# Altium schematic symbol library JDR2812（公开）.SchLib: 120 symbols (part 1 of 2)
Pins are listed as number, name and electrical type; pins without a type are passive.

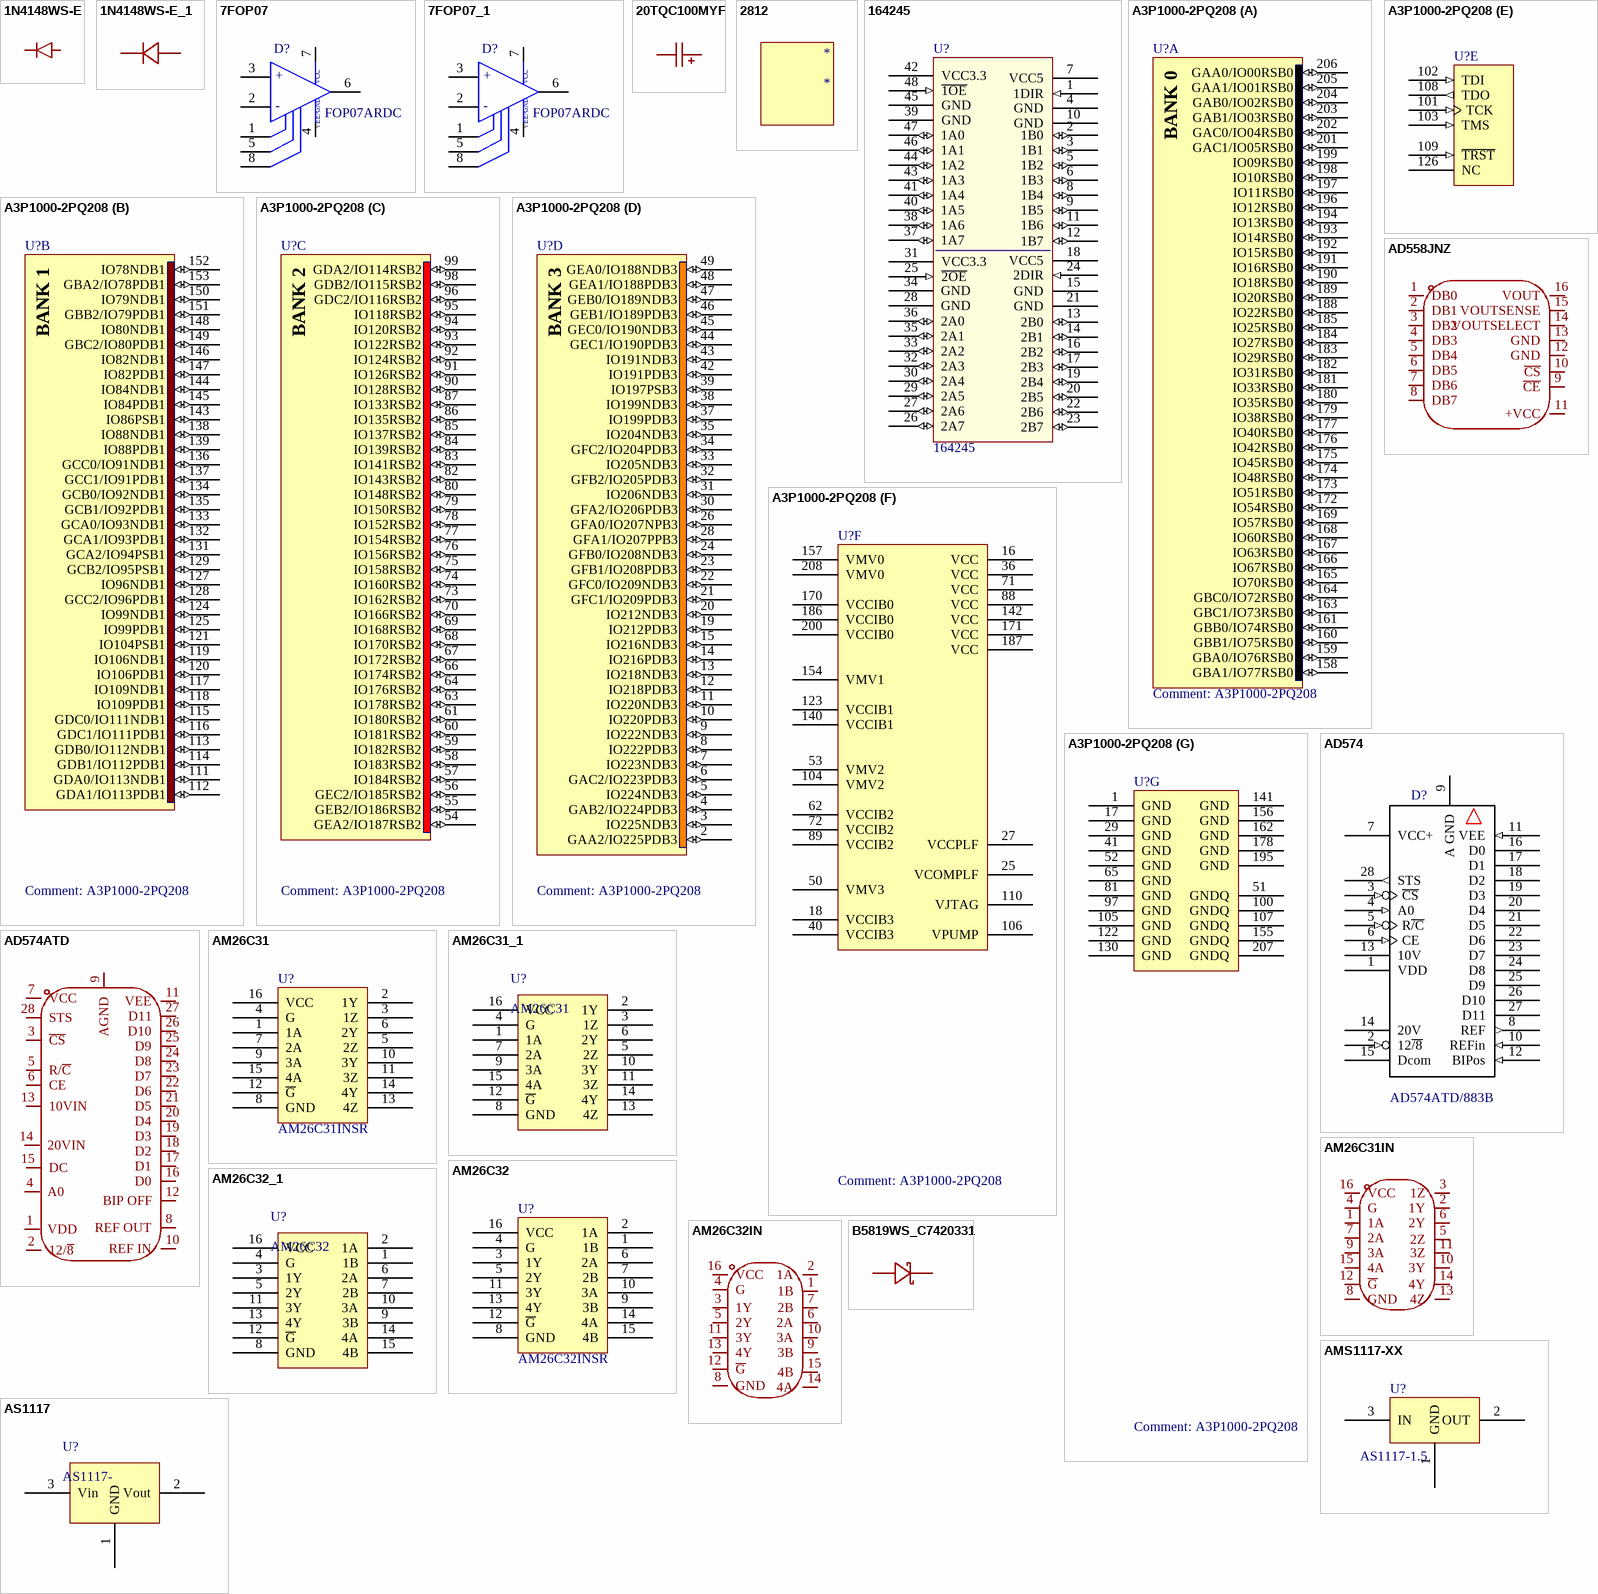
[diagram p0: symbols 1N4148WS-E to B5819WS_C7420331]

## 1N4148WS-E
designator D??  (value not drawn)
Manufacturer: MDD(辰达半导体); Add into BOM: yes; Symbol: 1n4148ws-e; Device: 1N4148WS-E; LCSC Part Name: 开关二极管; Supplier Part: C41371421; Manufacturer Part: 1N4148WS-E; Supplier Footprint: SOD-323; JLCPCB Part Class: Extended Part; Datasheet: https://atta.szlcsc.com/upload/public/pdf/source/20240830/BA1E56105C5798AA4D5522D8577BF8A0.pdf; Supplier: LCSC; Convert to PCB: yes; Diode Configuration: -; Forward Voltage (Vf@If): -; Reverse Voltage (Vr): -; Comment_1: 1N4148WS-E
footprint SOD-323_L1.8-W1.3-LS2.5-RD
pins: 1 K, 2 A

## 1N4148WS-E_1
designator D??, comment 1N4148WS-E  (value not drawn)
Manufacturer: MDD(辰达半导体); Add into BOM: yes; Symbol: 1n4148ws-e; Device: 1N4148WS-E; LCSC Part Name: 开关二极管; Supplier Part: C41371421; Manufacturer Part: 1N4148WS-E; Supplier Footprint: SOD-323; JLCPCB Part Class: Extended Part; Datasheet: https://atta.szlcsc.com/upload/public/pdf/source/20240830/BA1E56105C5798AA4D5522D8577BF8A0.pdf; Supplier: LCSC; Convert to PCB: yes; Diode Configuration: -; Forward Voltage (Vf@If): -; Reverse Voltage (Vr): -; Comment_1: 1N4148WS-E
footprint SOD-323_L1.8-W1.3-LS2.5-RD
pins: 1 K, 2 A

## 7FOP07
designator D?, comment FOP07ARDC
1_器件名称: 运放; 4_封装: DIP8; 5_生产厂家: 771厂; 2_型号规格: OP07ARDC; 3_质量等级: *
footprint CSOP08J
footprint DIP8
pins: 1 OA1, 2 IN-, 3 IN+, 4 V-, 5 NC, 6 OUT, 7 V+, 8 OA2
text: +; VCC; -; VEE/GND

## 7FOP07_1
designator D?, comment FOP07ARDC
1_器件名称: 运放; 4_封装: DIP8; 5_生产厂家: 771厂; 2_型号规格: OP07ARDC; 3_质量等级: *
footprint CSOP08J
footprint DIP8
pins: 1 OA1, 2 IN-, 3 IN+, 4 V-, 5 NC, 6 OUT, 7 V+, 8 OA2
text: +; VCC; -; VEE/GND

## 20TQC100MYF
designator C??, comment 100uF  (value not drawn)
Manufacturer: PANASONIC(松下); Symbol: 20TQC100MYF; Add into BOM: yes; Tolerance: ±20%; Rated Voltage: 20V; Equivalent Series Resistance(ESR): 55mΩ@100kHz; Device: 20TQC100MYF; LCSC Part Name: 100uF ±20% 20V; Supplier Part: C139578; Manufacturer Part: 20TQC100MYF; Supplier Footprint: -; JLCPCB Part Class: Extended Part; Datasheet: https://atta.szlcsc.com/upload/public/pdf/source/20180327/C178360_45C3E0E4231676737BD215E9C4CFE59C.pdf; Supplier: LCSC; Convert to PCB: yes; Value: 100uF; Operating Temperature: -55℃~+105℃; Comment_1: 100uF
footprint CAP-SMD_L7.3-W4.3-R-RD
pins: 1, 2

## 2812
designator *

## 164245
designator U?
1_器件名称: 总线收发器; 3_质量等级: J; 2_型号规格: JSR164245SA/JS164245/K/SN74ALVC164245; 备注: CFP48/CSOP48/SSOP48; 5_生产厂家: 58所
footprint CSOP外形
footprint CFP48
pins: 1 1DIR (in), 2 1B0 (io), 3 1B1 (io), 4 GND (power), 5 1B2 (io), 6 1B3 (io), 7 VCC5 (power), 8 1B4 (io), 9 1B5 (io), 10 GND (power), 11 1B6 (io), 12 1B7 (io), 13 2B0 (io), 14 2B1 (io), 15 GND (power), 16 2B2 (io), 17 2B3 (io), 18 VCC5 (power), 19 2B4 (io), 20 2B5 (io), 21 GND (power), 22 2B6 (io), 23 2B7 (io), 24 2DIR (in), 25 ~{2OE} (in), 26 2A7 (io), 27 2A6 (io), 28 GND (power), 29 2A5 (io), 30 2A4 (io), 31 VCC3.3 (power), 32 2A3 (io), 33 2A2 (io), 34 GND (power), 35 2A1 (io), 36 2A0 (io), 37 1A7 (io), 38 1A6 (io), 39 GND (power), 40 1A5 (io), 41 1A4 (io), 42 VCC3.3 (power), 43 1A3 (io), 44 1A2 (io), 45 GND (power), 46 1A1 (io), 47 1A0 (io), 48 ~{1OE} (in)

## A3P1000-2PQ208
designator U?
ProASIC3 Flash Family FPGA, 154 User IOs, 1M System Gates, 144 Kbits RAM, 1 Kbit Flash ROM, 1 PLL, 208-Pin PQFP, Commercial Grade; Published: 4-Mar-2005; LatestRevisionDate: 13-Apr-2006; LatestRevisionNote: IPC-7351 Footprint Added.; DatasheetVersion: v1.1, Feb-2009; PackageVersion: v11.0, Feb-2009; PackageReference: PQ208; Publisher: Altium Limited; PackageDescription: 208-Pin Plastic Quad Flat Pack (PQ208); Code_JEDEC: MS-029-FA-1; ComponentLink1Description: Manufacturer Link; ComponentLink1URL: http://www.actel.com/products/pa3/; ComponentLink2Description: Datasheet; ComponentLink2URL: http://www.actel.com/documents/PA3_DS.pdf; ComponentLink3Description: Packaging Specification; ComponentLink3URL: http://www.actel.com/documents/PckgMechDrwngs.pdf
footprint CQFP208__A3P1000
footprint PQ208_L (Shrink QFP, 208-Leads, Body 28x28mm, Pitch 0.5mm, IPC High Density)
footprint PQ208_M (Shrink QFP, 208-Leads, Body 28x28mm, Pitch 0.5mm, IPC Low Density)
3D model A3P1000-PQ208 (208-Pin Plastic Quad Flat Pack (PQ208))
signal-integrity model A3P1000_PQ208 (ProASIC3)
part A pins: 158 GBA1/IO77RSB0 (io), 159 GBA0/IO76RSB0 (io), 160 GBB1/IO75RSB0 (io), 161 GBB0/IO74RSB0 (io), 163 GBC1/IO73RSB0 (io), 164 GBC0/IO72RSB0 (io), 165 IO70RSB0 (io), 166 IO67RSB0 (io), 167 IO63RSB0 (io), 168 IO60RSB0 (io), 169 IO57RSB0 (io), 172 IO54RSB0 (io), 173 IO51RSB0 (io), 174 IO48RSB0 (io), 175 IO45RSB0 (io), 176 IO42RSB0 (io), 177 IO40RSB0 (io), 179 IO38RSB0 (io), 180 IO35RSB0 (io), 181 IO33RSB0 (io), 182 IO31RSB0 (io), 183 IO29RSB0 (io), 184 IO27RSB0 (io), 185 IO25RSB0 (io), 188 IO22RSB0 (io), 189 IO20RSB0 (io), 190 IO18RSB0 (io), 191 IO16RSB0 (io), 192 IO15RSB0 (io), 193 IO14RSB0 (io), 194 IO13RSB0 (io), 196 IO12RSB0 (io), 197 IO11RSB0 (io), 198 IO10RSB0 (io), 199 IO09RSB0 (io), 201 GAC1/IO05RSB0 (io), 202 GAC0/IO04RSB0 (io), 203 GAB1/IO03RSB0 (io), 204 GAB0/IO02RSB0 (io), 205 GAA1/IO01RSB0 (io), 206 GAA0/IO00RSB0 (io)
part B pins: 111 GDA0/IO113NDB1 (io), 112 GDA1/IO113PDB1 (io), 113 GDB0/IO112NDB1 (io), 114 GDB1/IO112PDB1 (io), 115 GDC0/IO111NDB1 (io), 116 GDC1/IO111PDB1 (io), 117 IO109NDB1 (io), 118 IO109PDB1 (io), 119 IO106NDB1 (io), 120 IO106PDB1 (io), 121 IO104PSB1 (io), 124 IO99NDB1 (io), 125 IO99PDB1 (io), 127 IO96NDB1 (io), 128 GCC2/IO96PDB1 (io), 129 GCB2/IO95PSB1 (io), 131 GCA2/IO94PSB1 (io), 132 GCA1/IO93PDB1 (io), 133 GCA0/IO93NDB1 (io), 134 GCB0/IO92NDB1 (io), 135 GCB1/IO92PDB1 (io), 136 GCC0/IO91NDB1 (io), 137 GCC1/IO91PDB1 (io), 138 IO88NDB1 (io), 139 IO88PDB1 (io), 143 IO86PSB1 (io), 144 IO84NDB1 (io), 145 IO84PDB1 (io), 146 IO82NDB1 (io), 147 IO82PDB1 (io), 148 IO80NDB1 (io), 149 GBC2/IO80PDB1 (io), 150 IO79NDB1 (io), 151 GBB2/IO79PDB1 (io), 152 IO78NDB1 (io), 153 GBA2/IO78PDB1 (io)
part C pins: 54 GEA2/IO187RSB2 (io), 55 GEB2/IO186RSB2 (io), 56 GEC2/IO185RSB2 (io), 57 IO184RSB2 (io), 58 IO183RSB2 (io), 59 IO182RSB2 (io), 60 IO181RSB2 (io), 61 IO180RSB2 (io), 63 IO178RSB2 (io), 64 IO176RSB2 (io), 66 IO174RSB2 (io), 67 IO172RSB2 (io), 68 IO170RSB2 (io), 69 IO168RSB2 (io), 70 IO166RSB2 (io), 73 IO162RSB2 (io), 74 IO160RSB2 (io), 75 IO158RSB2 (io), 76 IO156RSB2 (io), 77 IO154RSB2 (io), 78 IO152RSB2 (io), 79 IO150RSB2 (io), 80 IO148RSB2 (io), 82 IO143RSB2 (io), 83 IO141RSB2 (io), 84 IO139RSB2 (io), 85 IO137RSB2 (io), 86 IO135RSB2 (io), 87 IO133RSB2 (io), 90 IO128RSB2 (io), 91 IO126RSB2 (io), 92 IO124RSB2 (io), 93 IO122RSB2 (io), 94 IO120RSB2 (io), 95 IO118RSB2 (io), 96 GDC2/IO116RSB2 (io), 98 GDB2/IO115RSB2 (io), 99 GDA2/IO114RSB2 (io)
part D pins: 2 GAA2/IO225PDB3 (io), 3 IO225NDB3 (io), 4 GAB2/IO224PDB3 (io), 5 IO224NDB3 (io), 6 GAC2/IO223PDB3 (io), 7 IO223NDB3 (io), 8 IO222PDB3 (io), 9 IO222NDB3 (io), 10 IO220PDB3 (io), 11 IO220NDB3 (io), 12 IO218PDB3 (io), 13 IO218NDB3 (io), 14 IO216PDB3 (io), 15 IO216NDB3 (io), 19 IO212PDB3 (io), 20 IO212NDB3 (io), 21 GFC1/IO209PDB3 (io), 22 GFC0/IO209NDB3 (io), 23 GFB1/IO208PDB3 (io), 24 GFB0/IO208NDB3 (io), 26 GFA0/IO207NPB3 (io), 28 GFA1/IO207PPB3 (io), 30 GFA2/IO206PDB3 (io), 31 IO206NDB3 (io), 32 GFB2/IO205PDB3 (io), 33 IO205NDB3 (io), 34 GFC2/IO204PDB3 (io), 35 IO204NDB3 (io), 37 IO199PDB3 (io), 38 IO199NDB3 (io), 39 IO197PSB3 (io), 42 IO191PDB3 (io), 43 IO191NDB3 (io), 44 GEC1/IO190PDB3 (io), 45 GEC0/IO190NDB3 (io), 46 GEB1/IO189PDB3 (io), 47 GEB0/IO189NDB3 (io), 48 GEA1/IO188PDB3 (io), 49 GEA0/IO188NDB3 (io)
part E pins: 101 TCK (in), 102 TDI (in), 103 TMS (in), 108 TDO (out), 109 ~{TRST} (in), 126 NC
part F pins: 16 VCC (power), 18 VCCIB3 (power), 25 VCOMPLF (power), 27 VCCPLF (power), 36 VCC (power), 40 VCCIB3 (power), 50 VMV3 (power), 53 VMV2 (power), 62 VCCIB2 (power), 71 VCC (power), 72 VCCIB2 (power), 88 VCC (power), 89 VCCIB2 (power), 104 VMV2 (power), 106 VPUMP (power), 110 VJTAG (power), 123 VCCIB1 (power), 140 VCCIB1 (power), 142 VCC (power), 154 VMV1 (power), 157 VMV0 (power), 170 VCCIB0 (power), 171 VCC (power), 186 VCCIB0 (power), 187 VCC (power), 200 VCCIB0 (power), 208 VMV0 (power)
part G pins: 1 GND (power), 17 GND (power), 29 GND (power), 41 GND (power), 51 GNDQ (power), 52 GND (power), 65 GND (power), 81 GND (power), 97 GND (power), 100 GNDQ (power), 105 GND (power), 107 GNDQ (power), 122 GND (power), 130 GND (power), 141 GND (power), 155 GNDQ (power), 156 GND (power), 162 GND (power), 178 GND (power), 195 GND (power), 207 GNDQ (power)
part A text: BANK 0
part B text: BANK 1
part C text: BANK 2
part D text: BANK 3

## AD558JNZ
designator U??  (value not drawn)
Manufacturer: ADI(亚德诺); Add into BOM: yes; Interface: 并行; Output Type: 电压-缓冲; Supply Voltage: 4.5V~16.5V; Resolution: 8位; Integral nonlinearity: ±0.5LSB; Settling Time: 3us; Symbol: ad558jnz; Device: AD558JNZ; LCSC Part Name: 电压输出8位数模转换器，集成输出放大器、完全微处理器接口和精密基准电压源; Supplier Part: C55750; Manufacturer Part: AD558JNZ; Supplier Footprint: PDIP-16; JLCPCB Part Class: Extended Part; Datasheet: https://atta.szlcsc.com/upload/public/pdf/source/20150821/1457707347677.pdf; Supplier: LCSC; Convert to PCB: yes; Operating Temperature: 0℃~+70℃; Comment_1: AD558JNZ
footprint PDIP-16_L22.1-W6.3-P2.54-LS7.6-BL
pins: 1 DB0, 2 DB1, 3 DB2, 4 DB3, 5 DB4, 6 DB5, 7 DB6, 8 DB7, 9 ~{CE}, 10 ~{CS}, 11 +VCC, 12 GND, 13 GND, 14 VOUTSELECT, 15 VOUTSENSE, 16 VOUT

## AD574
designator D?, comment AD574ATD/883B
1_器件名称: A/D转换器; 5_生产厂家: AD; 4_封装: DIP28; 2_型号规格: AD574ATD/883B; 3_质量等级: *
footprint DIP28
pins: 1 VDD, 2 12~{/8} (in), 3 ~{CS} (in), 4 A0 (in), 5 R~{/C} (in), 6 CE (in), 7 VCC+, 8 REF (out), 9 A GND, 10 REFin (in), 11 VEE (in), 12 BIPos (in), 13 10V, 14 20V, 15 Dcom, 16 D0 (hiz), 17 D1 (hiz), 18 D2 (hiz), 19 D3 (hiz), 20 D4 (hiz), 21 D5 (hiz), 22 D6 (hiz), 23 D7 (hiz), 24 D8 (hiz), 25 D9 (hiz), 26 D10 (hiz), 27 D11 (hiz), 28 STS (out)
2 alternate drawings of the same symbol

## AD574ATD
designator U??, comment AD574AJNZ  (value not drawn)
Manufacturer: ADI(亚德诺); Add into BOM: yes; Interface: 并行; number of channels: 1; Supply Voltage: 11.4V~16.5V; resolution: 12位; Symbol: AD574AJNZ; Device: AD574AJNZ; LCSC Part Name: AD574AJNZ; Supplier Part: C650206; Manufacturer Part: AD574AJNZ; Supplier Footprint: PDIP-28; JLCPCB Part Class: Extended Part; Datasheet: https://atta.szlcsc.com/upload/public/pdf/source/20210701/D414F4257B4C2C4D5A1A94707AAC65B9.pdf; Supplier: LCSC; Convert to PCB: yes; Operating Temperature: 0℃~+70℃; Comment_1: AD574AJNZ
footprint PDIP-28_L37.0-W13.5-P2.54-LS15.6-BL
pins: 1 VDD, 2 12/~{8}, 3 ~{CS}, 4 A0, 5 R/~{C}, 6 CE, 7 VCC, 8 REF OUT, 9 AGND, 10 REF IN, 11 VEE, 12 BIP OFF, 13 10VIN, 14 20VIN, 15 DC, 16 D0, 17 D1, 18 D2, 19 D3, 20 D4, 21 D5, 22 D6, 23 D7, 24 D8, 25 D9, 26 D10, 27 D11, 28 STS

## AM26C31
designator U?, comment AM26C31INSR
footprint SOP16
pins: 1 1A, 2 1Y, 3 1Z, 4 G, 5 2Z, 6 2Y, 7 2A, 8 GND, 9 3A, 10 3Y, 11 3Z, 12 ~{G}, 13 4Z, 14 4Y, 15 4A, 16 VCC

## AM26C31_1
designator U?, comment AM26C31
pins: 1 1A, 2 1Y, 3 1Z, 4 G, 5 2Z, 6 2Y, 7 2A, 8 GND, 9 3A, 10 3Y, 11 3Z, 12 ~{G}, 13 4Z, 14 4Y, 15 4A, 16 VCC

## AM26C31IN
designator U??  (value not drawn)
Manufacturer: TI(德州仪器); Add into BOM: yes; Supply Voltage: 4.5V~5.5V; Symbol: AM26C31IN; Device: AM26C31IN; LCSC Part Name: AM26C31IN; Supplier Part: C2859571; Manufacturer Part: AM26C31IN; Supplier Footprint: PDIP-16; JLCPCB Part Class: Extended Part; Datasheet: https://www.ti.com/cn/lit/gpn/am26c31; Supplier: LCSC; Convert to PCB: yes; Operating Temperature: -40℃~+85℃; Comment_1: AM26C31IN
footprint PDIP-16_L19.3-W6.4-P2.54-LS7.9-BL
pins: 1 1A, 2 1Y, 3 1Z, 4 G, 5 2Z, 6 2Y, 7 2A, 8 GND, 9 3A, 10 3Y, 11 3Z, 12 ~{G}, 13 4Z, 14 4Y, 15 4A, 16 VCC

## AM26C32
designator U?, comment AM26C32INSR
footprint SOP16
pins: 1 1B, 2 1A, 3 1Y, 4 G, 5 2Y, 6 2A, 7 2B, 8 GND, 9 3B, 10 3A, 11 3Y, 12 ~{G}, 13 4Y, 14 4A, 15 4B, 16 VCC

## AM26C32_1
designator U?, comment AM26C32
pins: 1 1B, 2 1A, 3 1Y, 4 G, 5 2Y, 6 2A, 7 2B, 8 GND, 9 3B, 10 3A, 11 3Y, 12 ~{G}, 13 4Y, 14 4A, 15 4B, 16 VCC

## AM26C32IN
designator U??  (value not drawn)
Manufacturer: TI(德州仪器); Add into BOM: yes; Types: 接收器; Supply Voltage: 4.5V~5.5V; Driver/receiver: 0/4; Symbol: AM26C32IN; Device: AM26C32IN; LCSC Part Name: AM26C32IN; Supplier Part: C1544607; Manufacturer Part: AM26C32IN; Supplier Footprint: PDIP-16; JLCPCB Part Class: Extended Part; Datasheet: https://www.ti.com/cn/lit/gpn/am26c32; Supplier: LCSC; Convert to PCB: yes; Operating Temperature: -40℃~+85℃; Comment_1: AM26C32IN
footprint PDIP-16_L19.3-W6.4-P2.54-LS7.9-BL
pins: 1 1B, 2 1A, 3 1Y, 4 G, 5 2Y, 6 2A, 7 2B, 8 GND, 9 3B, 10 3A, 11 3Y, 12 ~{G}, 13 4Y, 14 4A, 15 4B, 16 VCC

## AMS1117-XX
designator U?, comment AS1117-1.5
3.3V稳压
footprint SOT223
pins: 1 GND, 2 OUT, 3 IN

## AS1117
designator U?, comment AS1117-
pins: 1 GND, 2 Vout, 3 Vin

## B5819WS_C7420331
designator D??, comment B5819WS  (value not drawn)
Manufacturer: 宏迦橙; Symbol: B5819WS_C7420331; Add into BOM: yes; Diode Configuration: 独立式; Forward Voltage (Vf@If): 600mV@1.0A; Reverse Voltage (Vr): 40V; Average Rectified Current (Io): 1A; Reverse Leakage Current (Ir): 1mA@40V; Peak forward surge current: 10A; Device: B5819WS_C7420331; LCSC Part Name: 电压:40V 电流:1A; Supplier Part: C7420331; Manufacturer Part: B5819WS; Supplier Footprint: SOD-323; JLCPCB Part Class: Extended Part; Datasheet: https://atta.szlcsc.com/upload/public/pdf/source/20230828/03CA0F4F90DAE368A7153B7B5E4D0651.pdf; Supplier: LCSC; Convert to PCB: yes; Comment_1: B5819WS
footprint SOD-323_L1.7-W1.3-LS2.5-FD
pins: 1 A, 2 K

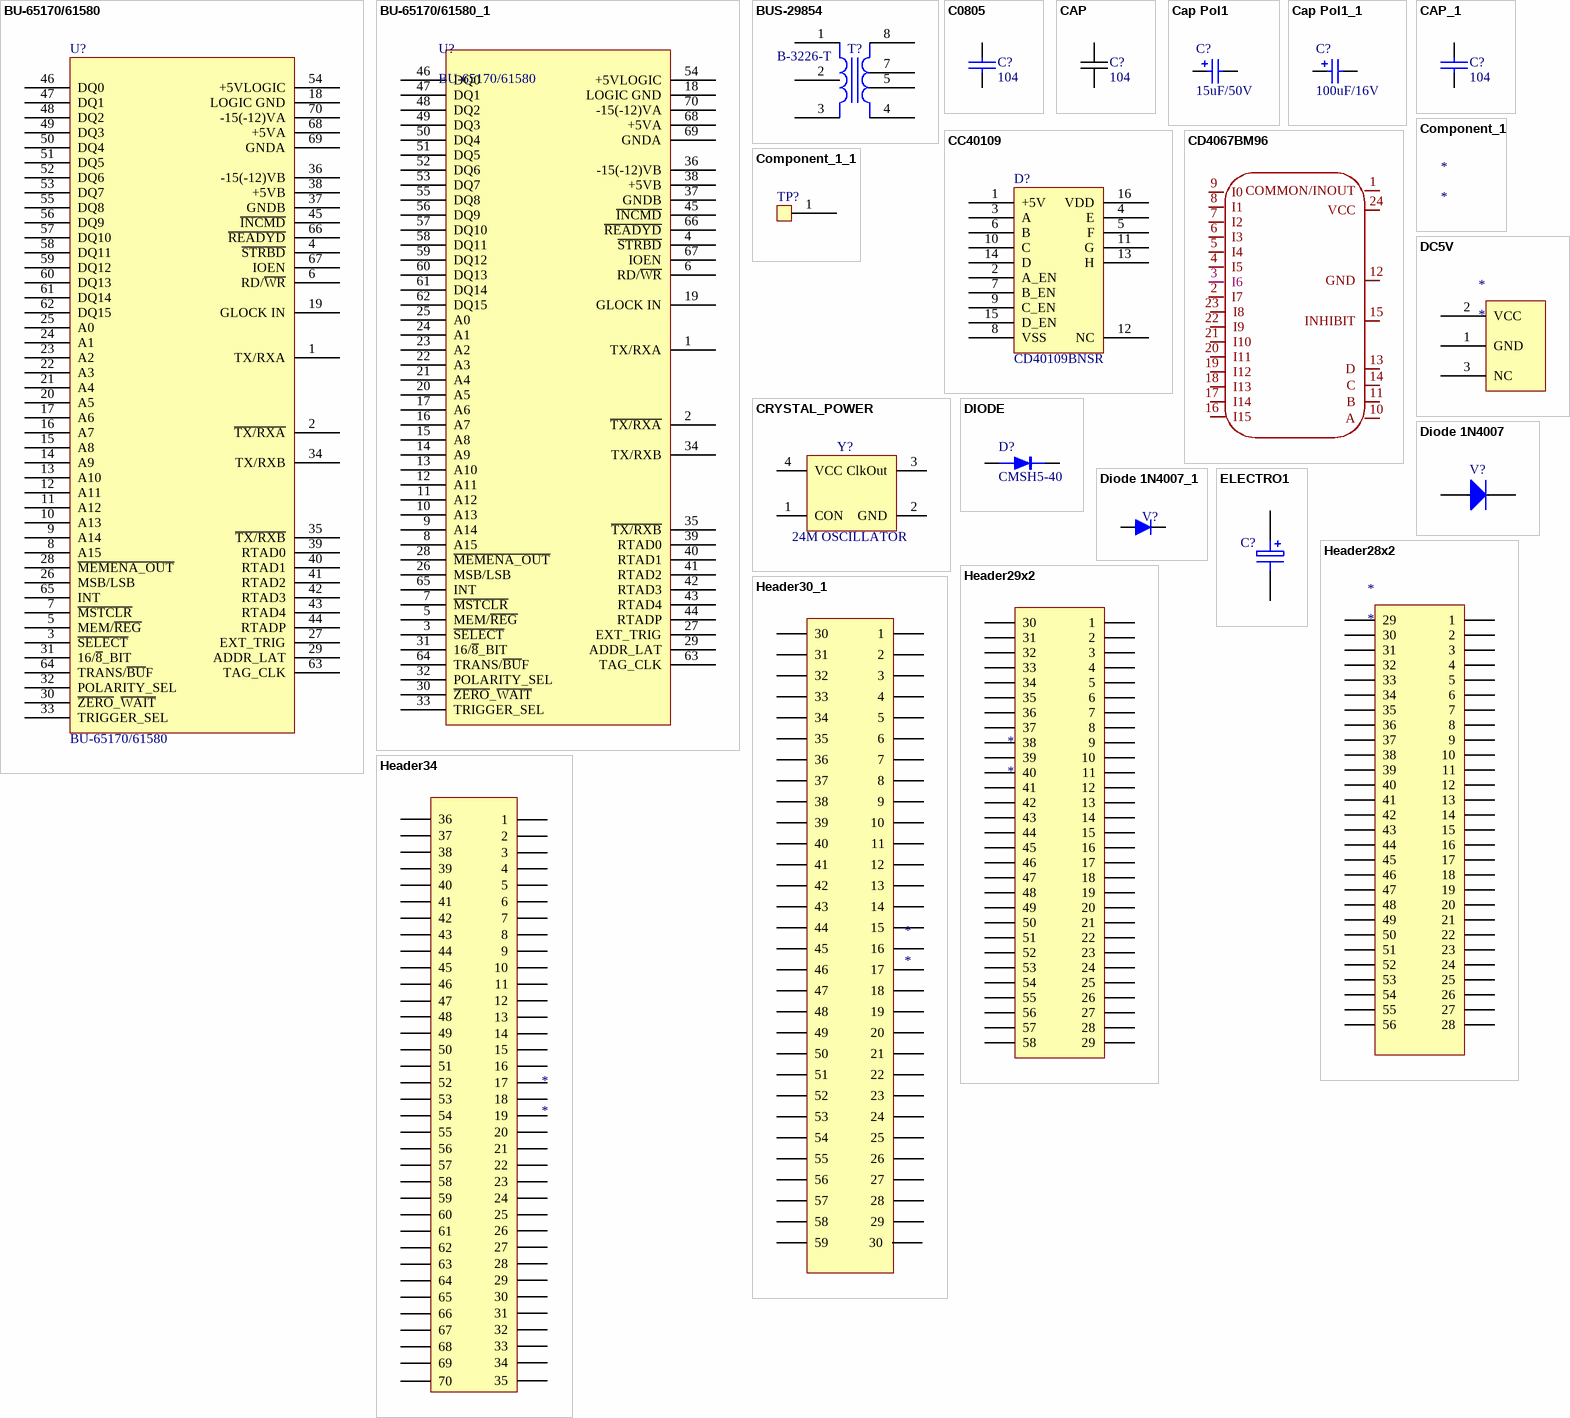
[diagram p1: symbols BU-65170/61580 to Header34]

## BU-65170/61580
designator U?
footprint BU-65170X2
pins: 1 TX/RXA, 2 ~{TX/RXA}, 3 ~{SELECT}, 4 ~{STRBD}, 5 MEM/~{REG}, 6 RD/~{WR}, 7 ~{MSTCLR}, 8 A15, 9 A14, 10 A13, 11 A12, 12 A11, 13 A10, 14 A9, 15 A8, 16 A7, 17 A6, 18 LOGIC GND, 19 GLOCK IN, 20 A5, 21 A4, 22 A3, 23 A2, 24 A1, 25 A0, 26 MSB/LSB, 27 EXT_TRIG, 28 ~{MEMENA_OUT}, 29 ADDR_LAT, 30 ~{ZERO}_~{WAIT}, 31 16/~{8}_BIT, 32 POLARITY_SEL, 33 TRIGGER_SEL, 34 TX/RXB, 35 ~{TX/RXB}, 36 -15(-12)VB, 37 GNDB, 38 +5VB, 39 RTAD0, 40 RTAD1, 41 RTAD2, 42 RTAD3, 43 RTAD4, 44 RTADP, 45 ~{INCMD}, 46 DQ0, 47 DQ1, 48 DQ2, 49 DQ3, 50 DQ4, 51 DQ5, 52 DQ6, 53 DQ7, 54 +5VLOGIC, 55 DQ8, 56 DQ9, 57 DQ10, 58 DQ11, 59 DQ12, 60 DQ13, 61 DQ14, 62 DQ15, 63 TAG_CLK, 64 TRANS/~{BU}F, 65 INT, 66 ~{READYD}, 67 IOEN, 68 +5VA, 69 GNDA, 70 -15(-12)VA

## BU-65170/61580_1
designator U?, comment BU-65170/61580
pins: 1 TX/RXA, 2 ~{TX/RXA}, 3 ~{SELECT}, 4 ~{STRBD}, 5 MEM/~{REG}, 6 RD/~{WR}, 7 ~{MSTCLR}, 8 A15, 9 A14, 10 A13, 11 A12, 12 A11, 13 A10, 14 A9, 15 A8, 16 A7, 17 A6, 18 LOGIC GND, 19 GLOCK IN, 20 A5, 21 A4, 22 A3, 23 A2, 24 A1, 25 A0, 26 MSB/LSB, 27 EXT_TRIG, 28 ~{MEMENA_OUT}, 29 ADDR_LAT, 30 ~{ZERO}_~{WAIT}, 31 16/~{8}_BIT, 32 POLARITY_SEL, 33 TRIGGER_SEL, 34 TX/RXB, 35 ~{TX/RXB}, 36 -15(-12)VB, 37 GNDB, 38 +5VB, 39 RTAD0, 40 RTAD1, 41 RTAD2, 42 RTAD3, 43 RTAD4, 44 RTADP, 45 ~{INCMD}, 46 DQ0, 47 DQ1, 48 DQ2, 49 DQ3, 50 DQ4, 51 DQ5, 52 DQ6, 53 DQ7, 54 +5VLOGIC, 55 DQ8, 56 DQ9, 57 DQ10, 58 DQ11, 59 DQ12, 60 DQ13, 61 DQ14, 62 DQ15, 63 TAG_CLK, 64 TRANS/~{BU}F, 65 INT, 66 ~{READYD}, 67 IOEN, 68 +5VA, 69 GNDA, 70 -15(-12)VA

## BUS-29854
designator T?, comment B-3226-T
footprint B-3226
footprint Model Name (Footprint not found)
footprint B-3226
pins: 1, 2, 3, 4, 5, 7, 8
2 alternate drawings of the same symbol

## C0805
designator C?, comment 104
1_器件名称: 瓷介片式电容器; 2_型号规格: CTK41L-0805-BY-100V-104K; 4_封装: C0805; 3_质量等级: *; 5_生产厂家: *
footprint C0805
pins: 1, 2
2 alternate drawings of the same symbol

## CAP
designator C?, comment 104
Capacitor
footprint 0805C
footprint 0603C
footprint RAD0.2
pins: 1, 2
2 alternate drawings of the same symbol

## Cap Pol1
designator C?, comment value 15uF/50V  (hidden comment: 钽电容D型15uF/50V)
Polarized Capacitor (Radial); Published: 8-Jun-2000; LatestRevisionDate: 17-Jul-2002; LatestRevisionNote: Re-released for DXP Platform.; PackageReference: RB7.6-15; Publisher: Altium Limited
footprint RB7.6-15 (Polarized Capacitor (Radial); 2 Leads)
footprint CAPPR1.27-1.7x2.8 (Capacitor, Radial, Tantalum; Body 1.7 x 2.8 mm (Dia.xH max); Pin Spacing 1.27 mm (typ))
footprint CAPPR1.5-4x5 (Capacitor, Electrolytic, Radial; Body 4 x 5 mm (Dia.xH typ); Pin Spacing 1.5 mm (typ))
footprint CAPPR2-5x6.8 (Capacitor, Electrolytic, Radial; Body 5 x 6.8 mm (Dia.xH typ); Pin Spacing 2 mm (typ))
footprint CAPPR5-5x5 (Capacitor, Electrolytic, Radial; Body 5 x 5 mm (Dia.xH typ); Pin Spacing 5 mm (typ))
footprint CAPPR7.5-16x35 (Capacitor, Electrolytic, Radial; Body 16 x 35 mm (Dia.xH typ); Pin Spacing 7.5 mm (typ))
simulation model CAP (Capacitor)
signal-integrity model Cap Pol
footprint 钽电容 D壳(7343)
pins: 1, 2
1 alternate drawing of the same symbol

## Cap Pol1_1
designator C?, comment value 100uF/16V  (hidden comment: 钽电容D型100uF/16V)
Polarized Capacitor (Radial); Published: 8-Jun-2000; LatestRevisionDate: 17-Jul-2002; LatestRevisionNote: Re-released for DXP Platform.; PackageReference: RB7.6-15; Publisher: Altium Limited
footprint 钽电容 D壳(7343)
footprint CAPPR1.27-1.7x2.8 (Capacitor, Radial, Tantalum; Body 1.7 x 2.8 mm (Dia.xH max); Pin Spacing 1.27 mm (typ))
footprint CAPPR1.5-4x5 (Capacitor, Electrolytic, Radial; Body 4 x 5 mm (Dia.xH typ); Pin Spacing 1.5 mm (typ))
footprint CAPPR2-5x6.8 (Capacitor, Electrolytic, Radial; Body 5 x 6.8 mm (Dia.xH typ); Pin Spacing 2 mm (typ))
footprint CAPPR5-5x5 (Capacitor, Electrolytic, Radial; Body 5 x 5 mm (Dia.xH typ); Pin Spacing 5 mm (typ))
footprint CAPPR7.5-16x35 (Capacitor, Electrolytic, Radial; Body 16 x 35 mm (Dia.xH typ); Pin Spacing 7.5 mm (typ))
simulation model CAP (Capacitor)
signal-integrity model Cap Pol
pins: 1, 2
1 alternate drawing of the same symbol

## CAP_1
designator C?, comment 104
Capacitor; 1_器件名称: 瓷介片式电容器; 2_型号规格: CT41L-0805-2C1-100V-104-K; 3_质量等级: J; 4_所属图号: Ru7.820.3508; 5_生产厂家: 715-6厂
footprint C0.2
footprint 1210
footprint C1210
footprint C0805
pins: 1, 2
2 alternate drawings of the same symbol

## CC40109
designator D?, comment CD40109BNSR
2_型号规格: JC40109R; 5_生产厂家: 北京宇翔; 1_器件名称: 四低高电平转换器; 4_封装: DIP16; 3_质量等级: *
footprint SOP16
pins: 1 +5V, 2 A_EN, 3 A, 4 E, 5 F, 6 B, 7 B_EN, 8 VSS, 9 C_EN, 10 C, 11 G, 12 NC, 13 H, 14 D, 15 D_EN, 16 VDD

## CD4067BM96
designator U??  (value not drawn)
Manufacturer: TI(德州仪器); Add into BOM: yes; Number of Channels: 1; Supply Voltage: 3V~18V; On-State Resistance (Max): 240Ω; Symbol: CD4067BM96; Device: CD4067BM96; LCSC Part Name: CD4067BM96; Supplier Part: C6525; Manufacturer Part: CD4067BM96; Supplier Footprint: SOIC-24-300mil; JLCPCB Part Class: Extended Part; Datasheet: https://www.ti.com/cn/lit/gpn/cd4067b; Supplier: LCSC; Convert to PCB: yes; Comment_1: CD4067BM96
footprint SOIC-24_L15.4-W7.5-P1.27-LS10.3-BL
pins: 1 COMMON/INOUT, 2 I7, 3 I6, 4 I5, 5 I4, 6 I3, 7 I2, 8 I1, 9 I0, 10 A, 11 B, 12 GND, 13 D, 14 C, 15 INHIBIT, 16 I15, 17 I14, 18 I13, 19 I12, 20 I11, 21 I10, 22 I9, 23 I8, 24 VCC

## Component_1
designator *

## Component_1_1
designator TP?
footprint P1
pins: 1

## CRYSTAL_POWER
designator Y?, comment 24M OSCILLATOR
POWER_CRYSTAL
footprint X-CPX75
pins: 1 CON, 2 GND, 3 ClkOut, 4 VCC
2 alternate drawings of the same symbol

## DC5V
designator *
pins: 1 GND, 2 VCC, 3 NC

## DIODE
designator D?, comment CMSH5-40
Diode
footprint 1005
footprint DIODE-0.3
footprint DIODE-0.4
footprint SMC
pins: 1 A, 2 K
2 alternate drawings of the same symbol

## Diode 1N4007
designator V?, comment LL4448  (value not drawn)
1 Amp General Purpose Rectifier; Published: 8-Jun-2000; LatestRevisionDate: 17-Jul-2002; LatestRevisionNote: Re-released for DXP Platform.; DatasheetVersion: 1998; PackageVersion: Aug-1999; PackageReference: DO-41; Publisher: Altium Limited; Code_JEDEC: DO-204-AL; ComponentLink1Description: Manufacturer Link; ComponentLink1URL: http://www.fairchildsemi.com/; ComponentLink2Description: Datasheet; ComponentLink2URL: http://www.fairchildsemi.com/ds/1N%2F1N4001.pdf
footprint 2DK010
simulation model 1N4007 (DIODE)
signal-integrity model 1N4007
pins: 1 A, 2 K

## Diode 1N4007_1
designator V?, comment LL4448  (value not drawn)
1 Amp General Purpose Rectifier; Published: 8-Jun-2000; LatestRevisionDate: 17-Jul-2002; LatestRevisionNote: Re-released for DXP Platform.; DatasheetVersion: 1998; PackageVersion: Aug-1999; PackageReference: DO-41; Publisher: Altium Limited; Code_JEDEC: DO-204-AL; ComponentLink1Description: Manufacturer Link; ComponentLink1URL: http://www.fairchildsemi.com/; ComponentLink2Description: Datasheet; ComponentLink2URL: http://www.fairchildsemi.com/ds/1N%2F1N4001.pdf
footprint 2DK010
simulation model 1N4007 (DIODE)
signal-integrity model 1N4007
pins: 1 A, 2 K

## ELECTRO1
designator C?, comment 钽电容E型47uF/25V  (value not drawn)
Electrolytic Capacitor
footprint POLAR1.0
footprint CAK45-C
footprint 钽电容 E壳(7342H)
pins: 1, 2
2 alternate drawings of the same symbol

## Header28x2
designator *
pins: 1, 2, 3, 4, 5, 6, 7, 8, 9, 10, 11, 12, 13, 14, 15, 16, 17, 18, 19, 20, 21, 22, 23, 24, 25, 26, 27, 28, 29, 29 30, 30 31, 31 32, 32 33, 33 34, 34 35, 35 36, 36 37, 37 38, 38 39, 39 40, 40 41, 41 42, 42 43, 43 44, 44 45, 45 46, 46 47, 47 48, 48 49, 49 50, 50 51, 51 52, 52 53, 53 54, 54 55, 55 56

## Header29x2
designator *
pins: 1, 2, 3, 4, 5, 6, 7, 8, 9, 10, 11, 12, 13, 14, 15, 16, 17, 18, 19, 20, 21, 22, 23, 24, 25, 26, 27, 28, 29, 30, 31, 32, 33, 34, 35, 36, 37, 38, 39, 40, 41, 42, 43, 44, 45, 46, 47, 48, 49, 50, 51, 52, 53, 54, 55, 56, 57, 58

## Header30_1
designator *
pins: 1, 2, 3, 4, 5, 6, 7, 8, 9, 10, 11, 12, 13, 14, 15, 16, 17, 18, 19, 20, 21, 22, 23, 24, 25, 26, 27, 28, 29, 30, 30, 31, 32, 33, 34, 35, 36, 37, 38, 39, 40, 41, 42, 43, 44, 45, 46, 47, 48, 49, 50, 51, 52, 53, 54, 55, 56, 57, 58, 59

## Header34
designator *
pins: 1, 2, 3, 4, 5, 6, 7, 8, 9, 10, 11, 12, 13, 14, 15, 16, 17, 18, 19, 20, 21, 22, 23, 24, 25, 26, 27, 28, 29, 30, 30 31, 30 32, 30 33, 30 34, 30 35, 35 36, 36 37, 37 38, 38 39, 39 40, 40 41, 41 42, 42 43, 43 44, 44 45, 45 46, 46 47, 47 48, 48 49, 49 50, 50 51, 51 52, 52 53, 53 54, 54 55, 55 56, 56 57, 57 58, 58 59, 59 60, 60 61, 61 62, 62 63, 63 64, 64 65, 65 66, 66 67, 67 68, 68 69, 68 70

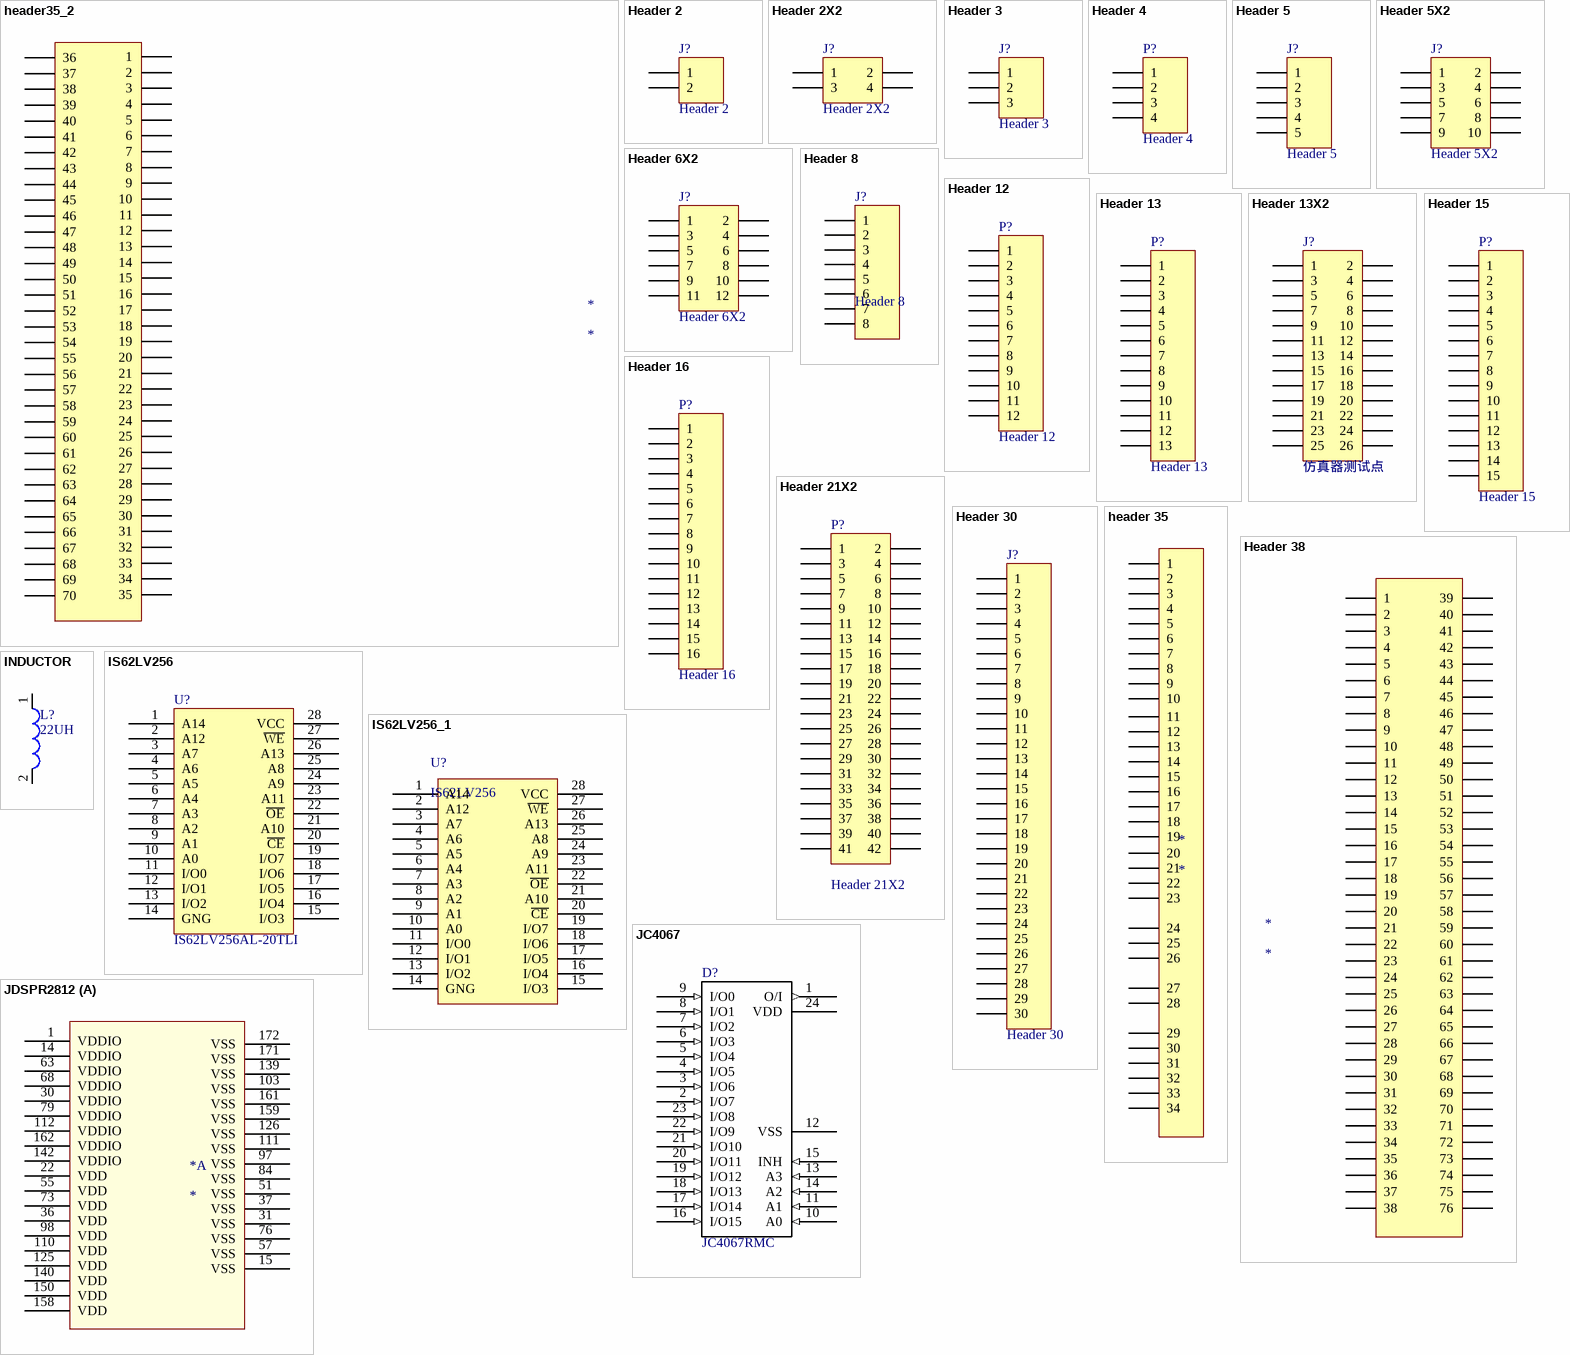
[diagram p2: symbols header35_2 to JDSPR2812]

## header35_2
designator *
pins: 1, 1 36, 2, 2 37, 3, 3 38, 4, 4 39, 5, 5 40, 6, 6 41, 7, 7 42, 8, 8 43, 9, 9 44, 10, 10 45, 11, 11 46, 12, 12 47, 13, 13 48, 14, 14 49, 15, 15 50, 16, 16 51, 17, 17 52, 18, 18 53, 19, 19 54, 20, 20 55, 21, 21 56, 22, 22 57, 23, 23 58, 24, 24 59, 25, 25 60, 26, 26 61, 27, 27 62, 28, 28 63, 29, 29 64, 30, 30 31, 30 32, 30 33, 30 34, 30 35, 30 65, 30 66, 30 67, 30 68, 30 69, 30 70

## Header 2
designator J?
Header, 2-Pin; LatestRevisionDate: 17-Jul-2002; LatestRevisionNote: Re-released for DXP Platform.; Publisher: Altium Limited
footprint KF2EDGK-2.54-WI-2P (长：6.93mm，宽：10.1mm，高：8.1mm)
signal-integrity model Connector
pins: 1, 2

## Header 2X2
designator J?
Header, 2-Pin, Dual row; LatestRevisionDate: 17-Jul-2002; LatestRevisionNote: Re-released for DXP Platform.; Publisher: Altium Limited
footprint HDR2X2 (Connector; Header; 2x2 Position)
signal-integrity model Connector
pins: 1, 2, 3, 4

## Header 3
designator J?
Header, 3-Pin; LatestRevisionDate: 17-Jul-2002; LatestRevisionNote: Re-released for DXP Platform.; Publisher: Altium Limited
footprint KF2EDGK-2.54-WI-3P (长：9.52mm，宽：10.1mm，高：8.1mm)
signal-integrity model Connector
pins: 1, 2, 3

## Header 4
designator P?
Header, 4-Pin; LatestRevisionDate: 17-Jul-2002; LatestRevisionNote: Re-released for DXP Platform.; Publisher: Altium Limited
footprint HDR1X4 (Connector; Header; 4 Position)
signal-integrity model Connector
pins: 1, 2, 3, 4

## Header 5
designator J?
Header, 5-Pin; LatestRevisionDate: 17-Jul-2002; LatestRevisionNote: Re-released for DXP Platform.; Publisher: Altium Limited
footprint KF2EDGK-2.54-WI-5P (长：14.6mm，宽：10.1mm，高：8.1mm)
signal-integrity model Connector
pins: 1, 2, 3, 4, 5

## Header 5X2
designator J?
Header, 5-Pin, Dual row; LatestRevisionDate: 17-Jul-2002; LatestRevisionNote: Re-released for DXP Platform.; Publisher: Altium Limited
footprint DC-2.54-L-Z-10P (立式直插简牛插座，间距2.54 淘宝ID:黄晶宝石   店铺网址:https://shop463601444.taobao.com)
signal-integrity model Connector
pins: 1, 2, 3, 4, 5, 6, 7, 8, 9, 10

## Header 6X2
designator J?
Header, 6-Pin, Dual row; LatestRevisionDate: 17-Jul-2002; LatestRevisionNote: Re-released for DXP Platform.; Publisher: Altium Limited
footprint HDR2X6 (Connector; Header; 6x2 Position)
signal-integrity model Connector
pins: 1, 2, 3, 4, 5, 6, 7, 8, 9, 10, 11, 12

## Header 8
designator J?
Header, 5-Pin; LatestRevisionDate: 17-Jul-2002; LatestRevisionNote: Re-released for DXP Platform.; Publisher: Altium Limited
footprint KF2EDGK-2.54-WI-5P (长：14.6mm，宽：10.1mm，高：8.1mm)
signal-integrity model Connector
pins: 1, 2, 3, 4, 5, 6, 7, 8

## Header 12
designator P?
Header, 12-Pin; LatestRevisionDate: 17-Jul-2002; LatestRevisionNote: Re-released for DXP Platform.; Publisher: Altium Limited
footprint HDR1X12 (Connector; Header; 12 Position)
signal-integrity model Connector
pins: 1, 2, 3, 4, 5, 6, 7, 8, 9, 10, 11, 12

## Header 13
designator P?
Header, 13-Pin; LatestRevisionDate: 17-Jul-2002; LatestRevisionNote: Re-released for DXP Platform.; Publisher: Altium Limited
footprint HDR1X13 (Connector; Header; 13 Position)
signal-integrity model Connector
pins: 1, 2, 3, 4, 5, 6, 7, 8, 9, 10, 11, 12, 13

## Header 13X2
designator J?, comment 仿真器测试点
Header, 13-Pin, Dual row; LatestRevisionDate: 17-Jul-2002; LatestRevisionNote: Re-released for DXP Platform.; Publisher: Altium Limited
footprint HDR2X13 (Connector; Header; 13x2 Position)
signal-integrity model Connector
pins: 1, 2, 3, 4, 5, 6, 7, 8, 9, 10, 11, 12, 13, 14, 15, 16, 17, 18, 19, 20, 21, 22, 23, 24, 25, 26

## Header 15
designator P?
Header, 15-Pin; LatestRevisionDate: 17-Jul-2002; LatestRevisionNote: Re-released for DXP Platform.; Publisher: Altium Limited
footprint HDR1X15 (Connector; Header; 15 Position)
signal-integrity model Connector
pins: 1, 2, 3, 4, 5, 6, 7, 8, 9, 10, 11, 12, 13, 14, 15

## Header 16
designator P?
Header, 16-Pin; LatestRevisionDate: 17-Jul-2002; LatestRevisionNote: Re-released for DXP Platform.; Publisher: Altium Limited
footprint HDR1X16 (Connector; Header; 16 Position)
signal-integrity model Connector
pins: 1, 2, 3, 4, 5, 6, 7, 8, 9, 10, 11, 12, 13, 14, 15, 16

## Header 21X2
designator P?
Header, 21-Pin, Dual row; LatestRevisionDate: 17-Jul-2002; LatestRevisionNote: Re-released for DXP Platform.; Publisher: Altium Limited
footprint HDR2X21 (Connector; Header; 22x2 Position)
signal-integrity model Connector
pins: 1, 2, 3, 4, 5, 6, 7, 8, 9, 10, 11, 12, 13, 14, 15, 16, 17, 18, 19, 20, 21, 22, 23, 24, 25, 26, 27, 28, 29, 30, 31, 32, 33, 34, 35, 36, 37, 38, 39, 40, 41, 42

## Header 30
designator J?
Header, 30-Pin; LatestRevisionDate: 17-Jul-2002; LatestRevisionNote: Re-released for DXP Platform.; Publisher: Altium Limited
footprint HDR1X30 (Connector; Header; 30 Position)
signal-integrity model Connector
pins: 1, 2, 3, 4, 5, 6, 7, 8, 9, 10, 11, 12, 13, 14, 15, 16, 17, 18, 19, 20, 21, 22, 23, 24, 25, 26, 27, 28, 29, 30

## header 35
designator *
pins: 1, 2, 3, 4, 5, 6, 7, 8, 9, 10, 11, 12, 13, 14, 15, 16, 17, 18, 19, 20, 21, 22, 23, 24, 25, 26, 27, 28, 29, 30, 30 31, 30 32, 30 33, 30 34

## Header 38
designator *
pins: 1, 2, 3, 4, 5, 6, 7, 8, 9, 10, 11, 12, 13, 14, 15, 16, 17, 18, 19, 20, 21, 22, 23, 24, 25, 26, 27, 28, 29, 30, 31, 32, 33, 34, 35, 36, 37, 38, 39, 40, 41, 42, 43, 44, 45, 46, 47, 48, 49, 50, 51, 52, 53, 54, 55, 56, 57, 58, 59, 60, 61, 62, 63, 64, 65, 66, 67, 68, 69, 70, 71, 72, 73, 74, 75, 76

## INDUCTOR
designator L?, comment 22UH
footprint SHC1004
pins: 1, 2

## IS62LV256
designator U?, comment IS62LV256AL-20TLI
footprint TSOP28(450mil)
pins: 1 A14, 2 A12, 3 A7, 4 A6, 5 A5, 6 A4, 7 A3, 8 A2, 9 A1, 10 A0, 11 I/O0, 12 I/O1, 13 I/O2, 14 GNG, 15 I/O3, 16 I/O4, 17 I/O5, 18 I/O6, 19 I/O7, 20 ~{CE}, 21 A10, 22 ~{OE}, 23 A11, 24 A9, 25 A8, 26 A13, 27 ~{WE}, 28 VCC

## IS62LV256_1
designator U?, comment IS62LV256
pins: 1 A14, 2 A12, 3 A7, 4 A6, 5 A5, 6 A4, 7 A3, 8 A2, 9 A1, 10 A0, 11 I/O0, 12 I/O1, 13 I/O2, 14 GNG, 15 I/O3, 16 I/O4, 17 I/O5, 18 I/O6, 19 I/O7, 20 ~{CE}, 21 A10, 22 ~{OE}, 23 A11, 24 A9, 25 A8, 26 A13, 27 ~{WE}, 28 VCC

## JC4067
designator D?, comment JC4067RMC
1_器件名称: 模拟开关; 5_生产厂家: 北京宇翔; 4_封装: CSOP24; 2_型号规格: JC4067RMC; 3_质量等级: *
footprint CSOP24
pins: 1 O/I (out), 2 I/O7 (in), 3 I/O6 (in), 4 I/O5 (in), 5 I/O4 (in), 6 I/O3 (in), 7 I/O2 (in), 8 I/O1 (in), 9 I/O0 (in), 10 A0 (in), 11 A1 (in), 12 VSS, 13 A3 (in), 14 A2 (in), 15 INH (in), 16 I/O15 (in), 17 I/O14 (in), 18 I/O13 (in), 19 I/O12 (in), 20 I/O11 (in), 21 I/O10 (in), 22 I/O9 (in), 23 I/O8 (in), 24 VDD (power)
2 alternate drawings of the same symbol

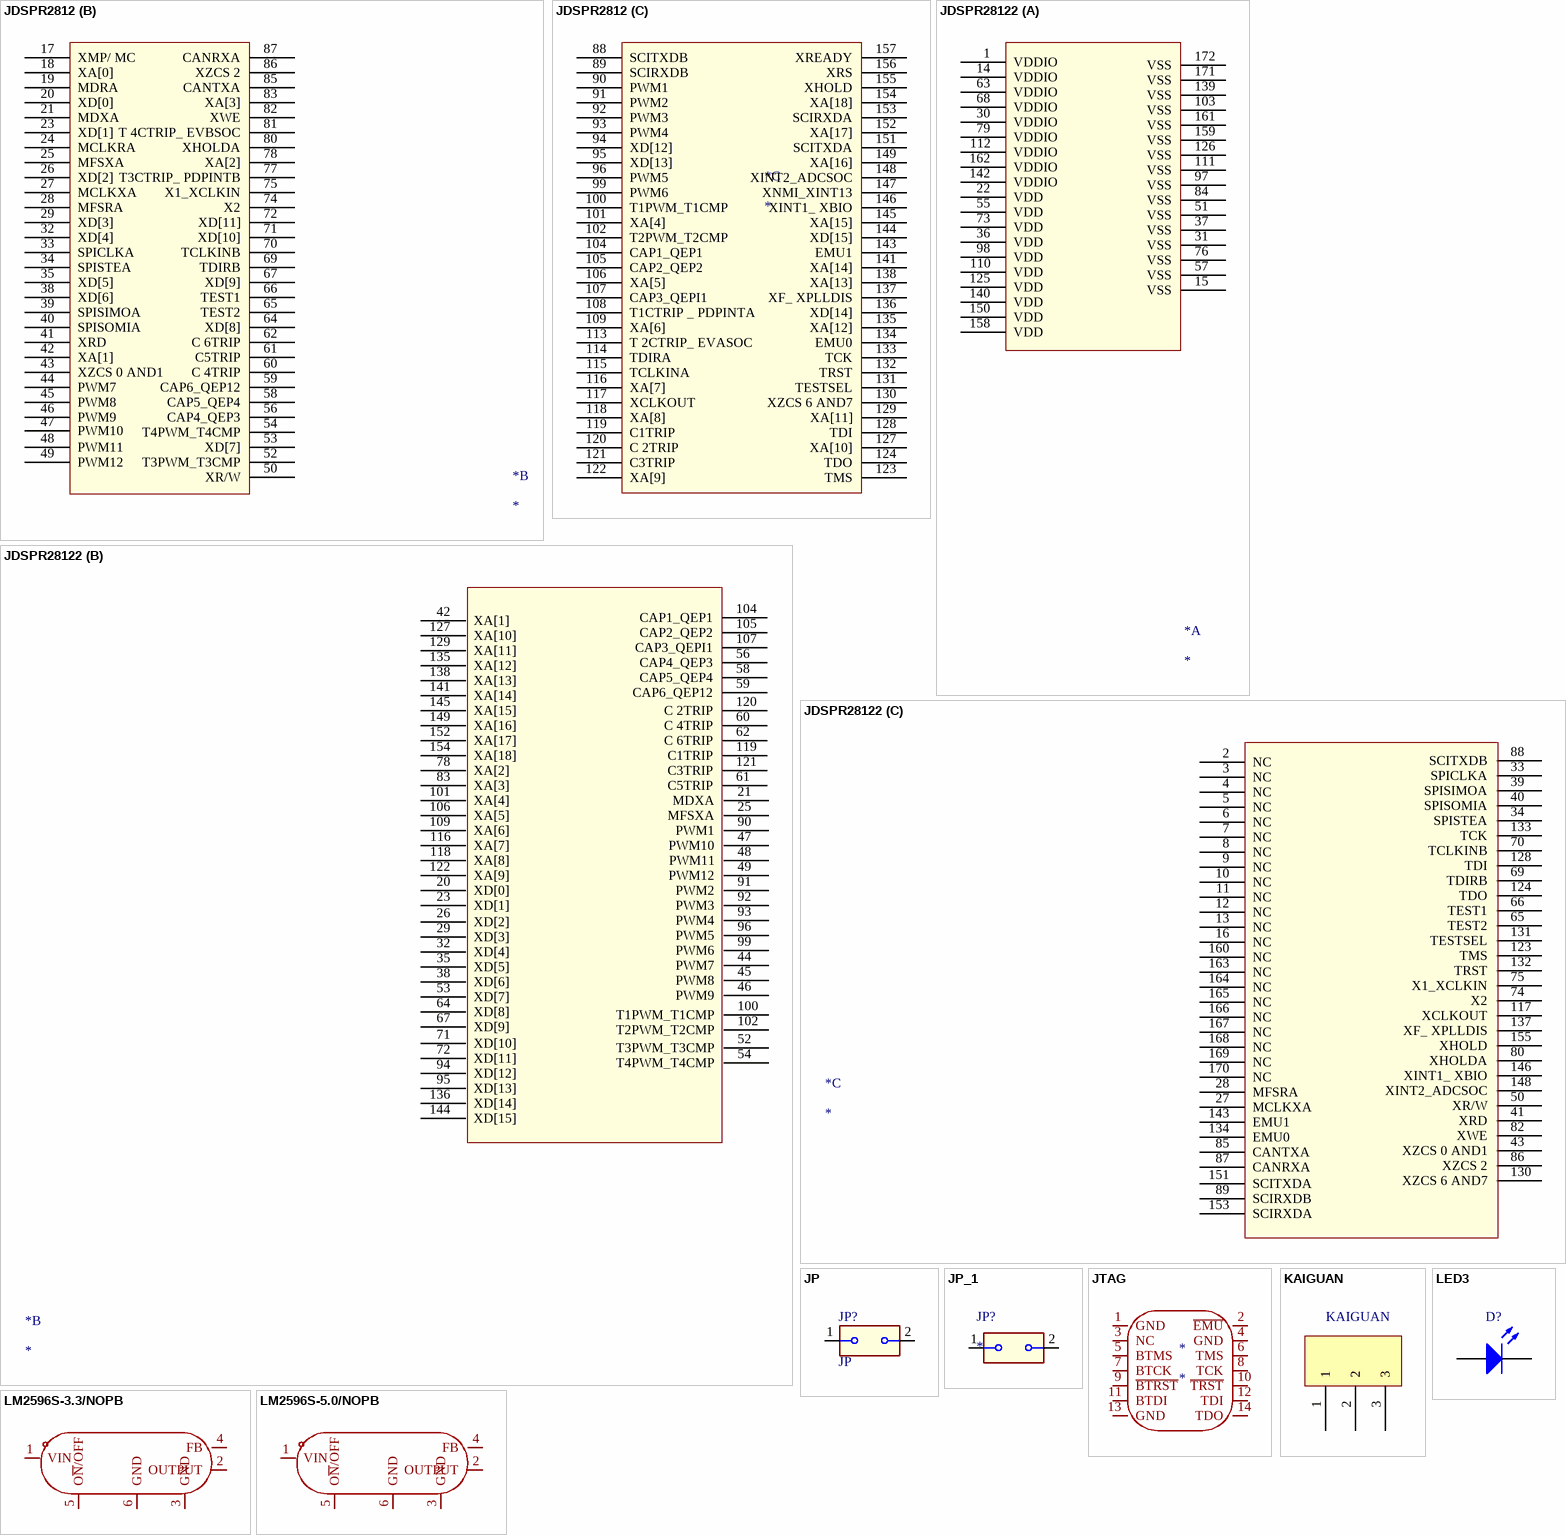
[diagram p3: symbols JDSPR2812 to LM2596S-5.0/NOPB]

## JDSPR2812
designator *
part A pins: 1 VDDIO, 14 VDDIO, 15 VSS, 22 VDD, 30 VDDIO, 31 VSS, 36 VDD, 37 VSS, 51 VSS, 55 VDD, 57 VSS, 63 VDDIO, 68 VDDIO, 73 VDD, 76 VSS, 79 VDDIO, 84 VSS, 97 VSS, 98 VDD, 103 VSS, 110 VDD, 111 VSS, 112 VDDIO, 125 VDD, 126 VSS, 139 VSS, 140 VDD, 142 VDDIO, 150 VDD, 158 VDD, 159 VSS, 161 VSS, 162 VDDIO, 171 VSS, 172 VSS
part B pins: 17 XMP/ MC, 18 XA[0], 19 MDRA, 20 XD[0], 21 MDXA, 23 XD[1], 24 MCLKRA, 25 MFSXA, 26 XD[2], 27 MCLKXA, 28 MFSRA, 29 XD[3], 32 XD[4], 33 SPICLKA, 34 SPISTEA, 35 XD[5], 38 XD[6], 39 SPISIMOA, 40 SPISOMIA, 41 XRD, 42 XA[1], 43 XZCS 0 AND1, 44 PWM7, 45 PWM8, 46 PWM9, 47 PWM10, 48 PWM11, 49 PWM12, 50 XR/W, 52 T3PWM_T3CMP, 53 XD[7], 54 T4PWM_T4CMP, 56 CAP4_QEP3, 58 CAP5_QEP4, 59 CAP6_QEP12, 60 C 4TRIP, 61 C5TRIP, 62 C 6TRIP, 64 XD[8], 65 TEST2, 66 TEST1, 67 XD[9], 69 TDIRB, 70 TCLKINB, 71 XD[10], 72 XD[11], 74 X2, 75 X1_XCLKIN, 77 T3CTRIP_ PDPINTB, 78 XA[2], 80 XHOLDA, 81 T 4CTRIP_ EVBSOC, 82 XWE, 83 XA[3], 85 CANTXA, 86 XZCS 2, 87 CANRXA
part C pins: 88 SCITXDB, 89 SCIRXDB, 90 PWM1, 91 PWM2, 92 PWM3, 93 PWM4, 94 XD[12], 95 XD[13], 96 PWM5, 99 PWM6, 100 T1PWM_T1CMP, 101 XA[4], 102 T2PWM_T2CMP, 104 CAP1_QEP1, 105 CAP2_QEP2, 106 XA[5], 107 CAP3_QEPI1, 108 T1CTRIP _ PDPINTA, 109 XA[6], 113 T 2CTRIP_ EVASOC, 114 TDIRA, 115 TCLKINA, 116 XA[7], 117 XCLKOUT, 118 XA[8], 119 C1TRIP, 120 C 2TRIP, 121 C3TRIP, 122 XA[9], 123 TMS, 124 TDO, 127 XA[10], 128 TDI, 129 XA[11], 130 XZCS 6 AND7, 131 TESTSEL, 132 TRST, 133 TCK, 134 EMU0, 135 XA[12], 136 XD[14], 137 XF_ XPLLDIS, 138 XA[13], 141 XA[14], 143 EMU1, 144 XD[15], 145 XA[15], 146 XINT1_ XBIO, 147 XNMI_XINT13, 148 XINT2_ADCSOC, 149 XA[16], 151 SCITXDA, 152 XA[17], 153 SCIRXDA, 154 XA[18], 155 XHOLD, 156 XRS, 157 XREADY

## JDSPR28122
designator *
part A pins: 1 VDDIO, 14 VDDIO, 15 VSS, 22 VDD, 30 VDDIO, 31 VSS, 36 VDD, 37 VSS, 51 VSS, 55 VDD, 57 VSS, 63 VDDIO, 68 VDDIO, 73 VDD, 76 VSS, 79 VDDIO, 84 VSS, 97 VSS, 98 VDD, 103 VSS, 110 VDD, 111 VSS, 112 VDDIO, 125 VDD, 126 VSS, 139 VSS, 140 VDD, 142 VDDIO, 150 VDD, 158 VDD, 159 VSS, 161 VSS, 162 VDDIO, 171 VSS, 172 VSS
part B pins: 20 XD[0], 21 MDXA, 23 XD[1], 25 MFSXA, 26 XD[2], 29 XD[3], 32 XD[4], 35 XD[5], 38 XD[6], 42 XA[1], 44 PWM7, 45 PWM8, 46 PWM9, 47 PWM10, 48 PWM11, 49 PWM12, 52 T3PWM_T3CMP, 53 XD[7], 54 T4PWM_T4CMP, 56 CAP4_QEP3, 58 CAP5_QEP4, 59 CAP6_QEP12, 60 C 4TRIP, 61 C5TRIP, 62 C 6TRIP, 64 XD[8], 67 XD[9], 71 XD[10], 72 XD[11], 78 XA[2], 83 XA[3], 90 PWM1, 91 PWM2, 92 PWM3, 93 PWM4, 94 XD[12], 95 XD[13], 96 PWM5, 99 PWM6, 100 T1PWM_T1CMP, 101 XA[4], 102 T2PWM_T2CMP, 104 CAP1_QEP1, 105 CAP2_QEP2, 106 XA[5], 107 CAP3_QEPI1, 109 XA[6], 116 XA[7], 118 XA[8], 119 C1TRIP, 120 C 2TRIP, 121 C3TRIP, 122 XA[9], 127 XA[10], 129 XA[11], 135 XA[12], 136 XD[14], 138 XA[13], 141 XA[14], 144 XD[15], 145 XA[15], 149 XA[16], 152 XA[17], 154 XA[18]
part C pins: 2 NC, 3 NC, 4 NC, 5 NC, 6 NC, 7 NC, 8 NC, 9 NC, 10 NC, 11 NC, 12 NC, 13 NC, 16 NC, 27 MCLKXA, 28 MFSRA, 33 SPICLKA, 34 SPISTEA, 39 SPISIMOA, 40 SPISOMIA, 41 XRD, 43 XZCS 0 AND1, 50 XR/W, 65 TEST2, 66 TEST1, 69 TDIRB, 70 TCLKINB, 74 X2, 75 X1_XCLKIN, 80 XHOLDA, 82 XWE, 85 CANTXA, 86 XZCS 2, 87 CANRXA, 88 SCITXDB, 89 SCIRXDB, 117 XCLKOUT, 123 TMS, 124 TDO, 128 TDI, 130 XZCS 6 AND7, 131 TESTSEL, 132 TRST, 133 TCK, 134 EMU0, 137 XF_ XPLLDIS, 143 EMU1, 146 XINT1_ XBIO, 148 XINT2_ADCSOC, 151 SCITXDA, 153 SCIRXDA, 155 XHOLD, 160 NC, 163 NC, 164 NC, 165 NC, 166 NC, 167 NC, 168 NC, 169 NC, 170 NC

## JP
designator JP?
footprint 2PIN-2.54
pins: 1, 2

## JP_1
designator JP?
pins: 1, 2

## JTAG
designator *
pins: 1 GND, 2 ~{EMU}, 3 NC, 4 GND, 5 BTMS, 6 TMS, 7 BTCK, 8 TCK, 9 ~{BTRST}, 10 ~{TRST}, 11 BTDI, 12 TDI, 13 GND, 14 TDO

## KAIGUAN
designator U?
footprint KAIGUAN
pins: 1, 2, 3

## LED3
designator D?, comment LED11  (value not drawn)
Typical BLUE SiC LED; Published: 8-Jun-2000; LatestRevisionDate: 17-Dec-2003; LatestRevisionNote: PCB Footprint replaced.; DatasheetVersion: 16-Apr-2002; PackageVersion: 16-Apr-2002; PackageReference: 3.5X2.8X1.9; Publisher: Altium Limited
footprint 0805_D
simulation model LED3 (Diode)
signal-integrity model LED
pins: 1 A, 2 K

## LM2596S-3.3/NOPB
designator U??  (value not drawn)
Manufacturer: TI(德州仪器); Add into BOM: yes; Function: 降压型; Output Type: 固定; Input Voltage: 4.5V~40V; Output Voltage: 3.3V; Output Current (Max): 3A; Switching Frequency: 150kHz; Synchronous Rectification: 否; Number of Outputs: 1; Topology: 降压式; Switch tube (built-in/external): 内置; Symbol: LM2596S-3.3/NOPB; Device: LM2596S-3.3/NOPB; LCSC Part Name: LM2596S-3.3/NOPB; Supplier Part: C2871122; Manufacturer Part: LM2596S-3.3/NOPB; Supplier Footprint: TO-263-5; JLCPCB Part Class: Extended Part; Datasheet: https://www.ti.com/cn/lit/gpn/lm2596; Supplier: LCSC; Convert to PCB: yes; Operating Temperature: -40℃~+125℃@(TJ); Comment_1: LM2596S-3.3/NOPB
footprint TO-263-5_L10.1-W8.7-P1.70-LS14.4-BR
pins: 1 VIN, 2 OUTPUT, 3 GND, 4 FB, 5 O~{N}/OFF, 6 GND

## LM2596S-5.0/NOPB
designator U??  (value not drawn)
Manufacturer: TI(德州仪器); Add into BOM: yes; Function: 降压型; Output Type: 固定; Input Voltage: 4.5V~40V; Output Voltage: 5V; Output Current (Max): 3A; Switching Frequency: 150kHz; Synchronous Rectification: 否; Number of Outputs: 1; Topology: 降压式; Switch tube (built-in/external): 内置; Symbol: LM2596S-5.0/NOPB; Device: LM2596S-5.0/NOPB; LCSC Part Name: LM2596S-5.0/NOPB; Supplier Part: C116713; Manufacturer Part: LM2596S-5.0/NOPB; Supplier Footprint: TO-263-5; JLCPCB Part Class: Extended Part; Datasheet: https://www.ti.com/cn/lit/gpn/lm2596; Supplier: LCSC; Convert to PCB: yes; Operating Temperature: -40℃~+125℃@(TJ); Comment_1: LM2596S-5.0/NOPB
footprint TO-263-5_L10.2-W8.6-P1.70-LS14.4-BR
pins: 1 VIN, 2 OUTPUT, 3 GND, 4 FB, 5 O~{N}/OFF, 6 GND

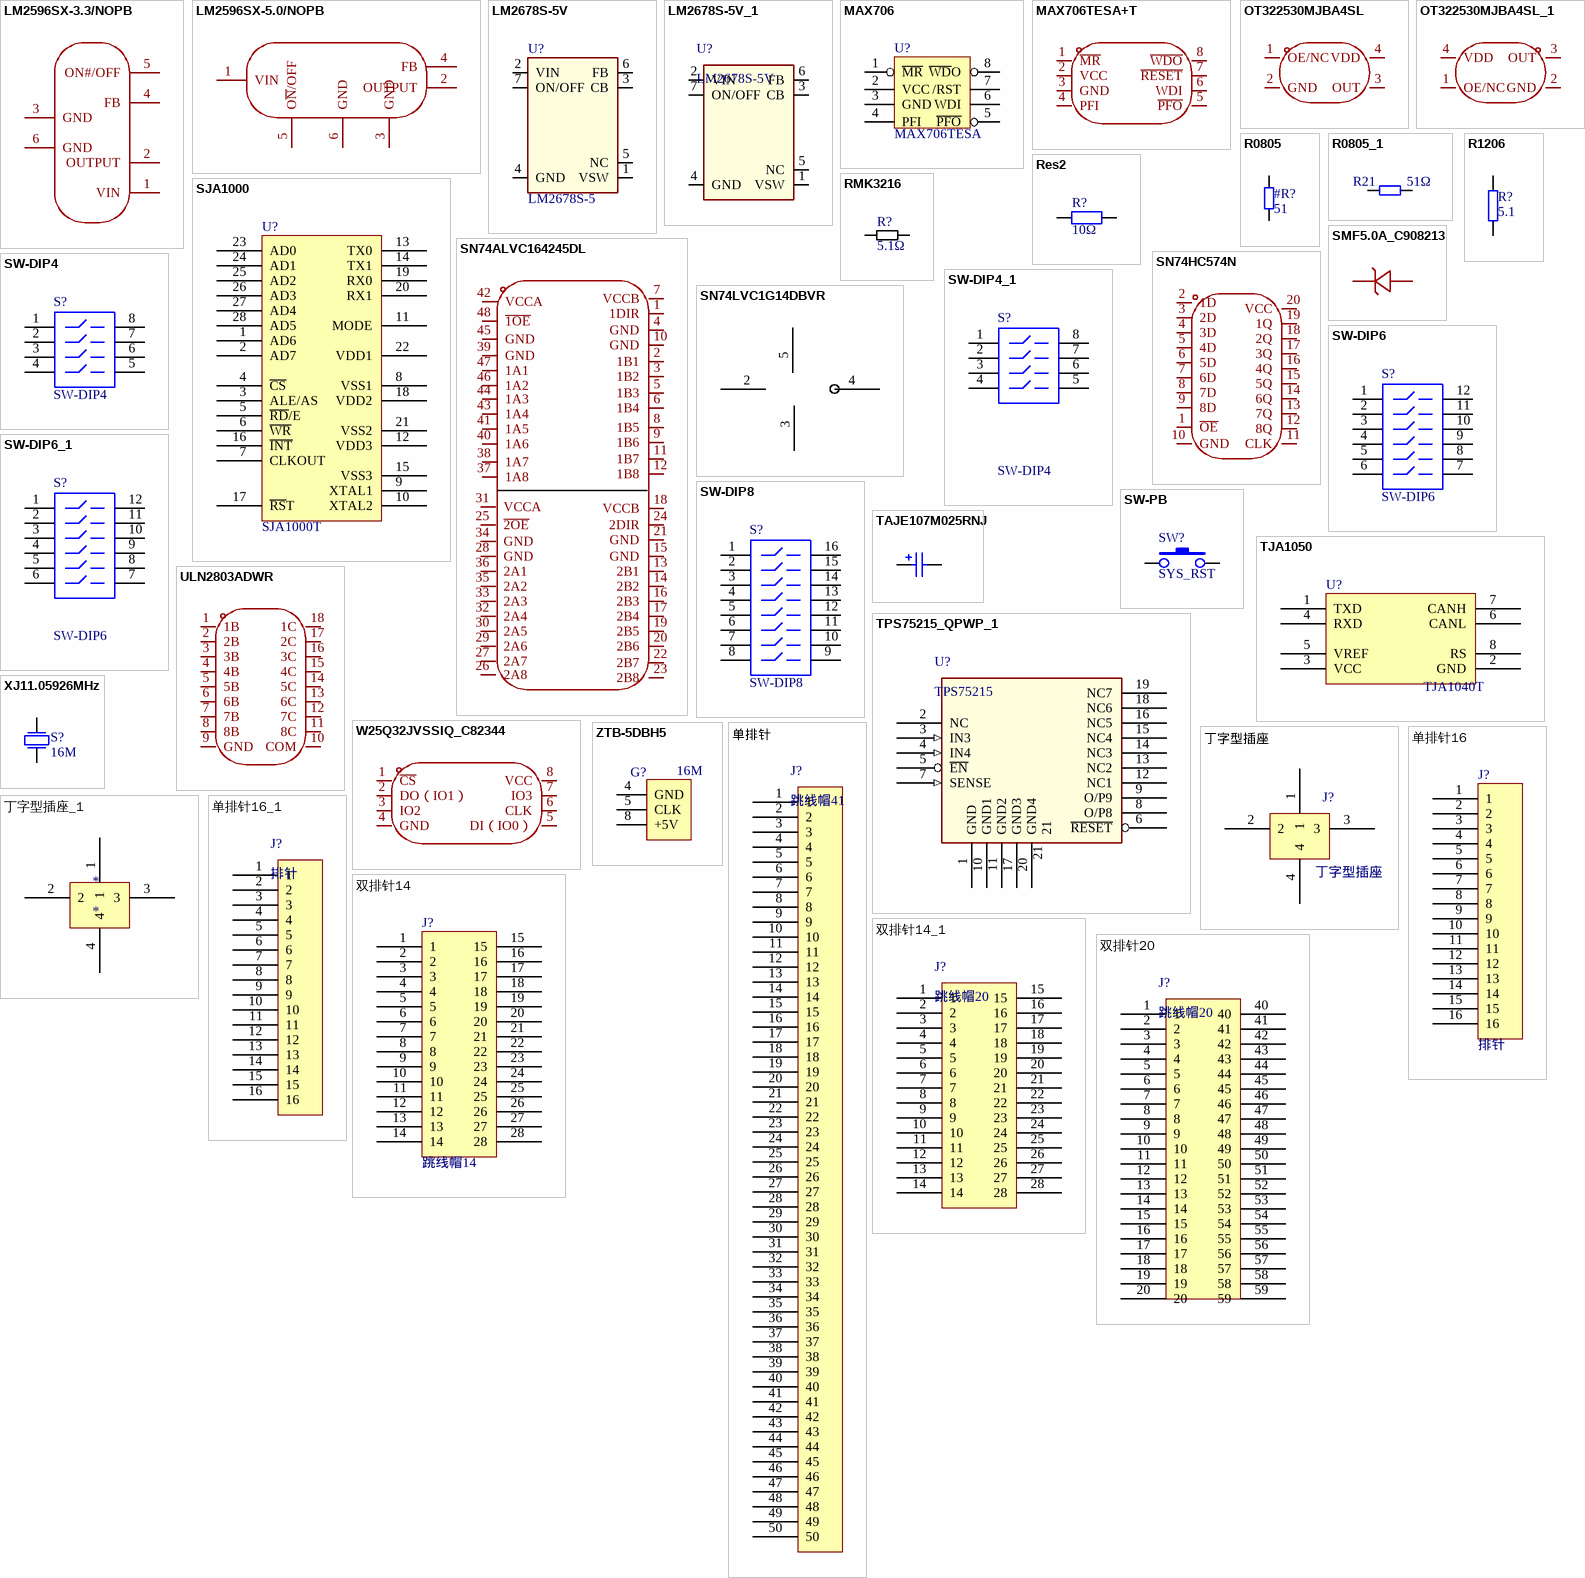
[diagram p4: symbols LM2596SX-3.3/NOPB to 双排针20]

## LM2596SX-3.3/NOPB
designator U??  (value not drawn)
Manufacturer: TI(德州仪器); Add into BOM: yes; Function: 降压型; Output Type: 固定; Input Voltage: 4.5V~40V; Output Voltage: 3.3V; Output Current (Max): 3A; Switching Frequency: 150kHz; Synchronous Rectification: 否; Number of Outputs: 1; Topology: 降压式; Switch tube (built-in/external): 内置; Symbol: LM2596SX-3.3/NOPB; Device: LM2596SX-3.3/NOPB; LCSC Part Name: LM2596SX-3.3/NOPB; Supplier Part: C7929; Manufacturer Part: LM2596SX-3.3/NOPB; Supplier Footprint: TO-263-5; JLCPCB Part Class: Extended Part; Datasheet: https://www.ti.com/cn/lit/gpn/lm2596; Supplier: LCSC; Convert to PCB: yes; Operating Temperature: -40℃~+125℃@(TJ); Comment_1: LM2596SX-3.3/NOPB
footprint TO-263-5_L10.2-W9.9-P1.70-LS14.4-TL
pins: 1 VIN, 2 OUTPUT, 3 GND, 4 FB, 5 ON#/OFF, 6 GND

## LM2596SX-5.0/NOPB
designator U??  (value not drawn)
Manufacturer: TI(德州仪器); Add into BOM: yes; Function: 降压型; Output Type: 固定; Input Voltage: 4.5V~40V; Output Voltage: 5V; Output Current (Max): 3A; Switching Frequency: 150kHz; Synchronous Rectification: 否; Number of Outputs: 1; Topology: 降压式; Switch tube (built-in/external): 内置; Symbol: LM2596SX-5.0/NOPB; Device: LM2596SX-5.0/NOPB; LCSC Part Name: LM2596SX-5.0/NOPB; Supplier Part: C10002; Manufacturer Part: LM2596SX-5.0/NOPB; Supplier Footprint: TO-263-5; JLCPCB Part Class: Extended Part; Datasheet: https://www.ti.com/cn/lit/gpn/lm2596; Supplier: LCSC; Convert to PCB: yes; Operating Temperature: -40℃~+125℃@(TJ); Comment_1: LM2596SX-5.0/NOPB
footprint TO-263-5_L10.2-W8.9-P1.70-TL
pins: 1 VIN, 2 OUTPUT, 3 GND, 4 FB, 5 O~{N}/OFF, 6 GND

## LM2678S-5V
designator U?, comment LM2678S-5
footprint LM2678S/TO-263-7
pins: 1 VSW, 2 VIN, 3 CB, 4 GND (power), 5 NC, 6 FB, 7 ON/OFF

## LM2678S-5V_1
designator U?, comment LM2678S-5V
pins: 1 VSW, 2 VIN, 3 CB, 4 GND (power), 5 NC, 6 FB, 7 ON/OFF

## MAX706
designator U?, comment MAX706TESA
1_器件名称: 看门狗; 2_型号规格: MAX706PMJA; 5_生产厂家: Maxim; 3_质量等级: *; 4_所属图号: *
footprint SOP8
pins: 1 ~{MR}, 2 VCC, 3 GND, 4 PFI, 5 ~{PFO}, 6 WDI, 7 /RST, 8 ~{WD}O

## MAX706TESA+T
designator U??  (value not drawn)
Manufacturer: ADI(亚德诺)/MAXIM(美信); Add into BOM: yes; ChipType: 简单复位/加电复位; Output Type: 推挽; Reset Active Level: 低电平有效; Threshold Voltage: 3.08V; Number of Voltages Monitored: 1; Reset Timeout: 140ms; Symbol: max706tesa+t; Device: MAX706TESA+T; LCSC Part Name: 监视+3V电压、低成本、微处理器监控电路; Supplier Part: C143580; Manufacturer Part: MAX706TESA+T; Supplier Footprint: SOIC-8; JLCPCB Part Class: Extended Part; Datasheet: https://atta.szlcsc.com/upload/public/pdf/source/20180629/C192393_74229EDE73756E54B9F877AA97A0ADB9.pdf; Supplier: LCSC; Convert to PCB: yes; Operating Temperature: -40℃~+85℃@(TA); Comment_1: MAX706TESA+T
footprint SOIC-8_L4.9-W3.9-P1.27-LS6.0-BL
pins: 1 ~{MR}, 2 VCC, 3 GND, 4 PFI, 5 ~{PFO}, 6 WDI, 7 ~{RESET}, 8 ~{WDO}

## OT322530MJBA4SL
designator U??, comment 30MHz  (value not drawn)
Manufacturer: YXC(扬兴晶振); Symbol: OT322530MJBA4SL; Add into BOM: yes; Supply Voltage: 1.8V~3.3V; Frequency Stability(Full temperature range): ±10ppm; Device: OT322530MJBA4SL; LCSC Part Name: 30MHz ±10ppm 1.8V~3.3V YSO110TR; Supplier Part: C2831390; Manufacturer Part: OT322530MJBA4SL; Supplier Footprint: SMD3225-4P; JLCPCB Part Class: Extended Part; Datasheet: https://atta.szlcsc.com/upload/public/pdf/source/20210329/C669065_30B18CFE780D377BA4E84F6ED1951959.pdf; Supplier: LCSC; Convert to PCB: yes; Value: 30MHz; Operating Temperature: -40℃~+85℃; Comment_1: 30MHz
footprint OSC-SMD_4P-L3.2-W2.5-BL-1
pins: 1 OE/NC, 2 GND, 3 OUT, 4 VDD

## OT322530MJBA4SL_1
designator U??, comment 30MHz  (value not drawn)
Manufacturer: YXC(扬兴晶振); Symbol: OT322530MJBA4SL; Add into BOM: yes; Supply Voltage: 1.8V~3.3V; Frequency Stability(Full temperature range): ±10ppm; Device: OT322530MJBA4SL; LCSC Part Name: 30MHz ±10ppm 1.8V~3.3V YSO110TR; Supplier Part: C2831390; Manufacturer Part: OT322530MJBA4SL; Supplier Footprint: SMD3225-4P; JLCPCB Part Class: Extended Part; Datasheet: https://atta.szlcsc.com/upload/public/pdf/source/20210329/C669065_30B18CFE780D377BA4E84F6ED1951959.pdf; Supplier: LCSC; Convert to PCB: yes; Value: 30MHz; Operating Temperature: -40℃~+85℃; Comment_1: 30MHz
footprint OSC-SMD_4P-L3.2-W2.5-BL-1
pins: 1 OE/NC, 2 GND, 3 OUT, 4 VDD

## R0805
designator #R?, comment 51
1_器件名称: 片式电阻器; 2_型号规格: RM2012MB510FM; 4_封装: R0805; 3_质量等级: *; 5_生产厂家: *
footprint R0805
pins: 1, 2 20

## R0805_1
designator R21, comment 51Ω
1_器件名称: 片式电阻器; 2_型号规格: RM2012MB510FM; 4_封装: R0805; 3_质量等级: *; 5_生产厂家: *
footprint R0805
pins: 1, 2 20

## R1206
designator R?, comment 5.1
1_器件名称: 片式电阻器; 2_型号规格: RM3216MB5R1FM; 4_封装: R1206; 3_质量等级: *; 5_生产厂家: *
footprint R1206
pins: 1, 2

## Res2
designator R?, comment 10Ω
Resistor; Published: 8-Jun-2000; LatestRevisionDate: 17-Jul-2002; LatestRevisionNote: Re-released for DXP Platform.; PackageReference: AXIAL-0.4; Publisher: Altium Limited; Value: 10Ω
footprint AXIAL-0.4 (Axial Device, Thru-Hole; 2 Leads; 0.4 in Pin Spacing)
simulation model RESISTOR (Resistor)
signal-integrity model Res
footprint 0805
pins: 1, 2

## RMK3216
designator R?, comment 5.1Ω
电阻器; 1_器件名称: 片式电阻器; 2_型号规格: RM3216-0.25W-5.1Ω±1%; 3_质量等级: J; 4_所属图号: Ru7.820.3508; 5_生产厂家: 718厂
footprint 1206
footprint 0805
pins: 1, 2

## SJA1000
designator U?, comment SJA1000T
1_器件名称: CAN总线控制器; 3_质量等级: J; 5_生产厂家: NXP; 2_型号规格: SJA1000T
footprint SOP28
footprint SOP28
pins: 1 AD6, 2 AD7, 3 ALE/AS, 4 ~{CS}, 5 ~{RD}/E, 6 ~{WR}, 7 CLKOUT, 8 VSS1 (power), 9 XTAL1 (power), 10 XTAL2 (power), 11 MODE, 12 VDD3 (power), 13 TX0, 14 TX1, 15 VSS3 (power), 16 ~{INT}, 17 ~{RS}T, 18 VDD2 (power), 19 RX0, 20 RX1, 21 VSS2 (power), 22 VDD1 (power), 23 AD0, 24 AD1, 25 AD2, 26 AD3, 27 AD4, 28 AD5
2 alternate drawings of the same symbol

## SMF5.0A_C908213
designator D??, comment SMF5.0A  (value not drawn)
Manufacturer: FUXINSEMI(富芯森美); Symbol: SMF5.0A_C908213; Add into BOM: yes; Reverse Stand-Off Voltage (Vrwm): 5V; Maximum Clamping Voltage: 9.2V; Peak Pulse Current (Ipp)@10/1000us: 21.7A; Breakdown Voltage: 6.4V; Reverse Leakage Current (Ir): 800uA; Type: TVS; Device: SMF5.0A_C908213; LCSC Part Name: SMF5.0A; Supplier Part: C908213; Manufacturer Part: SMF5.0A; Supplier Footprint: SOD-123; JLCPCB Part Class: Extended Part; Datasheet: https://atta.szlcsc.com/upload/public/pdf/source/20201023/C908211_2B6F82B5D5E79B5CF282141215A9A141.pdf; Supplier: LCSC; Convert to PCB: yes; Comment_1: SMF5.0A
footprint SOD-123FL_L2.7-W1.8-LS3.8-RD
pins: 1 C, 2 A

## SN74ALVC164245DL
designator U??  (value not drawn)
Manufacturer: TI(德州仪器); Add into BOM: yes; Channel Type: 双向; Supply Voltage (VCCA): 2.3V~3.6V; Supply Voltage (VCCB): 3V~5.5V; Number of Circuits: 2; Channels per Circuit: 8; Output Type: 非反相；三态; Symbol: SN74ALVC164245DL; Device: SN74ALVC164245DL; LCSC Part Name: SN74ALVC164245DL; Supplier Part: C354158; Manufacturer Part: SN74ALVC164245DL; Supplier Footprint: SSOP-48-300mil; JLCPCB Part Class: Extended Part; Datasheet: https://www.ti.com/cn/lit/gpn/sn74alvc164245; Supplier: LCSC; Convert to PCB: yes; Operating Temperature: -40℃~+85℃; Comment_1: SN74ALVC164245DL
footprint SSOP-48_L16.0-W7.6-P0.64-LS10.7-BL
pins: 1 1DIR, 2 1B1, 3 1B2, 4 GND, 5 1B3, 6 1B4, 7 VCCB, 8 1B5, 9 1B6, 10 GND, 11 1B7, 12 1B8, 13 2B1, 14 2B2, 15 GND, 16 2B3, 17 2B4, 18 VCCB, 19 2B5, 20 2B6, 21 GND, 22 2B7, 23 2B8, 24 2DIR, 25 ~{2OE}, 26 2A8, 27 2A7, 28 GND, 29 2A6, 30 2A5, 31 VCCA, 32 2A4, 33 2A3, 34 GND, 35 2A2, 36 2A1, 37 1A8, 38 1A7, 39 GND, 40 1A6, 41 1A5, 42 VCCA, 43 1A4, 44 1A3, 45 GND, 46 1A2, 47 1A1, 48 ~{1OE}

## SN74HC574N
designator U??  (value not drawn)
Manufacturer: TI(德州仪器); Add into BOM: yes; Trigger Type: 上升沿; Supply Voltage: 2V~6V; Clock Frequency: 36MHz; Number of Elements: 1; Number of Bits per Element: 8; Output Type: 三态；非反相; Maximum Propagation Delay: 46ns@6V,150pF; Sink Current: 7.8mA; Quiescent Current (Iq): 8uA; Input Capacitance: 3pF; Symbol: SN74HC574N; Device: SN74HC574N; LCSC Part Name: SN74HC574N; Supplier Part: C67579; Manufacturer Part: SN74HC574N; Supplier Footprint: DIP-20; JLCPCB Part Class: Extended Part; Datasheet: https://www.ti.com/cn/lit/gpn/sn74hc574; Supplier: LCSC; Convert to PCB: yes; Type: D-型; Function: -; Series: 74HC系列; Source Current: 7.8mA; Operating Temperature: -40℃~+85℃; Comment_1: SN74HC574N
footprint DIP-20_L25.5-W10.0-P2.54-LS7.6-BL
pins: 1 ~{OE}, 2 1D, 3 2D, 4 3D, 5 4D, 6 5D, 7 6D, 8 7D, 9 8D, 10 GND, 11 CLK, 12 8Q, 13 7Q, 14 6Q, 15 5Q, 16 4Q, 17 3Q, 18 2Q, 19 1Q, 20 VCC

## SN74LVC1G14DBVR
designator U??  (value not drawn)
Manufacturer: TI(德州仪器); Add into BOM: yes; Input Type: 施密特触发器; Supply Voltage(Single): 1.65V~5.5V; Supply Current (Max): 10uA; Number of Circuits: 1; Sink Current: 32mA; High level range (VIH): 1.16V~3.33V; Low level range (VIL): 390mV~1.87V; Max Propagation Delay: 6.5ns@2.5V,50pF; Symbol: SN74LVC1G14DBVR; Device: SN74LVC1G14DBVR; LCSC Part Name: 单路施密特触发反相器; Supplier Part: C7835; Manufacturer Part: SN74LVC1G14DBVR; Supplier Footprint: SOT-23-5; JLCPCB Part Class: Extended Part; Datasheet: https://www.ti.com/cn/lit/gpn/sn74lvc1g14; Supplier: LCSC; Convert to PCB: yes; Number of Inputs: 1; Source Current: 32mA; Series: 74LVC系列; Operating Temperature: -40℃~+125℃; Comment_1: SN74LVC1G14DBVR
footprint SOT-23-5_L3.0-W1.7-P0.95-LS2.8-BR
pins: 2 IN, 3 GND, 4, 5 VCC

## SW-DIP4
designator S?
4位直插拨码开关; Published: 24-Mar-1999; LatestRevisionDate: 17-Dec-2003; LatestRevisionNote: PCB Footprint replaced.; PackageReference: DIP-16-KEY; Publisher: Altium Limited; ComponentLink1Description: Manufacturer Link; ComponentLink1URL: http://www.oupiin.com/prodindx.html#Headers
footprint CSW DIP-4P_G (11.7*9.9*7mm)
pins: 1, 2, 3, 4, 5, 6, 7, 8

## SW-DIP4_1
designator S?, comment SW-DIP4
4位直插拨码开关; Published: 24-Mar-1999; LatestRevisionDate: 17-Dec-2003; LatestRevisionNote: PCB Footprint replaced.; PackageReference: DIP-16-KEY; Publisher: Altium Limited; ComponentLink1Description: Manufacturer Link; ComponentLink1URL: http://www.oupiin.com/prodindx.html#Headers
footprint CSW DIP-4P_G (11.7*9.9*7mm)
pins: 1, 2, 3, 4, 5, 6, 7, 8

## SW-DIP6
designator S?
6位直插拨码开关; Published: 24-Mar-1999; LatestRevisionDate: 17-Dec-2003; LatestRevisionNote: PCB Footprint replaced.; PackageReference: DIP-16-KEY; Publisher: Altium Limited; ComponentLink1Description: Manufacturer Link; ComponentLink1URL: http://www.oupiin.com/prodindx.html#Headers
footprint CSW DIP-6P_G (16.8*9.9*7mm)
pins: 1, 2, 3, 4, 5, 6, 7, 8, 9, 10, 11, 12

## SW-DIP6_1
designator S?, comment SW-DIP6
6位直插拨码开关; Published: 24-Mar-1999; LatestRevisionDate: 17-Dec-2003; LatestRevisionNote: PCB Footprint replaced.; PackageReference: DIP-16-KEY; Publisher: Altium Limited; ComponentLink1Description: Manufacturer Link; ComponentLink1URL: http://www.oupiin.com/prodindx.html#Headers
footprint CSW DIP-6P_G (16.8*9.9*7mm)
pins: 1, 2, 3, 4, 5, 6, 7, 8, 9, 10, 11, 12

## SW-DIP8
designator S?
8位直插拨码开关; Published: 24-Mar-1999; LatestRevisionDate: 17-Dec-2003; LatestRevisionNote: PCB Footprint replaced.; PackageReference: DIP-16-KEY; Publisher: Altium Limited; ComponentLink1Description: Manufacturer Link; ComponentLink1URL: http://www.oupiin.com/prodindx.html#Headers
footprint CSW DIP-8P_G (21.9*9.9*7mm)
pins: 1, 2, 3, 4, 5, 6, 7, 8, 9, 10, 11, 12, 13, 14, 15, 16

## SW-PB
designator SW?, comment SYS_RST
footprint KEY-6A
footprint TSW SMD-6*6*6 (6*6*6mm)
pins: 1, 2
2 alternate drawings of the same symbol

## TAJE107M025RNJ
designator C??, comment 100uF  (value not drawn)
Manufacturer: Kyocera AVX; Symbol: TAJE107M025RNJ; Add into BOM: yes; Tolerance: ±20%; Rated Voltage: 25V; Equivalent Series Resistance(ESR): 300mΩ@100kHz; Device: TAJE107M025RNJ; LCSC Part Name: 100uF ±20% 25V; Supplier Part: C7230; Manufacturer Part: TAJE107M025RNJ; Supplier Footprint: CASE-E-7343-43(mm); JLCPCB Part Class: Extended Part; Datasheet: https://atta.szlcsc.com/upload/public/pdf/source/20160107/1457707750344.pdf; Supplier: LCSC; Convert to PCB: yes; Value: 100uF; Operating Temperature: -55℃~+125℃; Comment_1: 100uF
footprint CAP-SMD_L7.3-W4.3-R-RD
pins: 1, 2

## TJA1050
designator U?, comment TJA1040T
1_器件名称: CAN总线驱动器; 2_型号规格: TJA1050; 3_质量等级: 工业级; 5_生产厂家: NXP; 4_所属图号: *
footprint SOP8 (82C250)
pins: 1 TXD, 2 GND, 3 VCC, 4 RXD, 5 VREF, 6 CANL, 7 CANH, 8 RS
2 alternate drawings of the same symbol

## TPS75215_QPWP_1
designator U?, comment TPS75215
pins: 1 GND (power), 2 NC, 3 IN3 (in), 4 IN4 (in), 5 ~{EN}, 6 ~{RESET}, 7 SENSE (in), 8 O/P8, 9 O/P9, 10 GND1 (power), 11 GND2 (power), 12 NC1, 13 NC2, 14 NC3, 15 NC4, 16 NC5, 17 GND3 (power), 18 NC6, 19 NC7, 20 GND4 (power), 21

## ULN2803ADWR
designator U??  (value not drawn)
Manufacturer: TI(德州仪器); Add into BOM: yes; Symbol: uln2803adwr; Device: ULN2803ADWR; LCSC Part Name: 停产; Supplier Part: C9683; Manufacturer Part: ULN2803ADWR; Supplier Footprint: SOIC-18-300mil; JLCPCB Part Class: Extended Part; Datasheet: https://www.ti.com/cn/lit/gpn/uln2803a; Supplier: LCSC; Convert to PCB: yes; Comment_1: ULN2803ADWR
footprint SOIC-18_L11.6-W7.5-P1.27-LS10.3-BL
pins: 1 1B, 2 2B, 3 3B, 4 4B, 5 5B, 6 6B, 7 7B, 8 8B, 9 GND, 10 COM, 11 8C, 12 7C, 13 6C, 14 5C, 15 4C, 16 3C, 17 2C, 18 1C

## W25Q32JVSSIQ_C82344
designator U??, comment W25Q32JVSSIQ  (value not drawn)
Manufacturer: WINBOND(华邦); Device: W25Q32JVSSIQ_C82344; Add into BOM: yes; Interface Type: SPI; Memory Size: 32Mbit; Supply Voltage: 2.7V~3.6V; Page Programming Time (Tpp): 3ms; Symbol: W25Q32JVSSIQ; LCSC Part Name: W25Q32JVSSIQ; Supplier Part: C82344; Manufacturer Part: W25Q32JVSSIQ; Supplier Footprint: SOIC-8-208mil; JLCPCB Part Class: Extended Part; Datasheet: https://atta.szlcsc.com/upload/public/pdf/source/20160910/1473490310454.pdf; Supplier: LCSC; Convert to PCB: yes; Operating Temperature: -40℃~+85℃; Comment_1: W25Q32JVSSIQ
footprint SOIC-8_L5.3-W5.3-P1.27-LS8.0-BL
pins: 1 ~{CS}, 2 DO（IO1）, 3 IO2, 4 GND, 5 DI（IO0）, 6 CLK, 7 IO3, 8 VCC

## XJ11.05926MHz
designator S?, comment 16M
Crystal Oscillator; 1_器件名称: 石英晶体谐振器; 2_型号规格: XJ530-16MHz; 3_质量等级: J; 4_所属图号: Ru7.820.3508; 5_生产厂家: 203所
footprint XJ530
pins: 1 P1, 2 P2
2 alternate drawings of the same symbol

## ZTB-5DBH5
designator G?, comment 16M
footprint DIP8
footprint 16M
pins: 4 GND, 5 CLK, 8 +5V
2 alternate drawings of the same symbol

## 丁字型插座
designator J?
footprint 丁字型插座
pins: 1, 2, 3, 4

## 丁字型插座_1
designator *
footprint 丁字型插座
pins: 1, 2, 3, 4

## 单排针
designator J?, comment 跳线帽41
footprint 50PIN X1
pins: 1, 2, 3, 4, 5, 6, 7, 8, 9, 10, 11, 12, 13, 14, 15, 16, 17, 18, 19, 20, 21, 22, 23, 24, 25, 26, 27, 28, 29, 30, 31, 32, 33, 34, 35, 36, 37, 38, 39, 40, 41, 42, 43, 44, 45, 46, 47, 48, 49, 50

## 单排针16
designator J?, comment 排针
footprint 16PIN
pins: 1, 2, 3, 4, 5, 6, 7, 8, 9, 10, 11, 12, 13, 14, 15, 16

## 单排针16_1
designator J?, comment 排针
footprint 16PIN
pins: 1, 2, 3, 4, 5, 6, 7, 8, 9, 10, 11, 12, 13, 14, 15, 16

## 双排针14
designator J?, comment 跳线帽14
footprint 14PIN X 2
pins: 1, 2, 3, 4, 5, 6, 7, 8, 9, 10, 11, 12, 13, 14, 15, 16, 17, 18, 19, 20, 21, 22, 23, 24, 25, 26, 27, 28

## 双排针14_1
designator J?, comment 跳线帽20
footprint 14PIN X 2
pins: 1, 2, 3, 4, 5, 6, 7, 8, 9, 10, 11, 12, 13, 14, 15, 16, 17, 18, 19, 20, 21, 22, 23, 24, 25, 26, 27, 28

## 双排针20
designator J?, comment 跳线帽20
pins: 1, 2, 3, 4, 5, 6, 7, 8, 9, 10, 11, 12, 13, 14, 15, 16, 17, 18, 19, 20, 40, 41, 42, 43, 44, 45, 46, 47, 48, 49, 50, 51, 52, 53, 54, 55, 56, 57, 58, 59

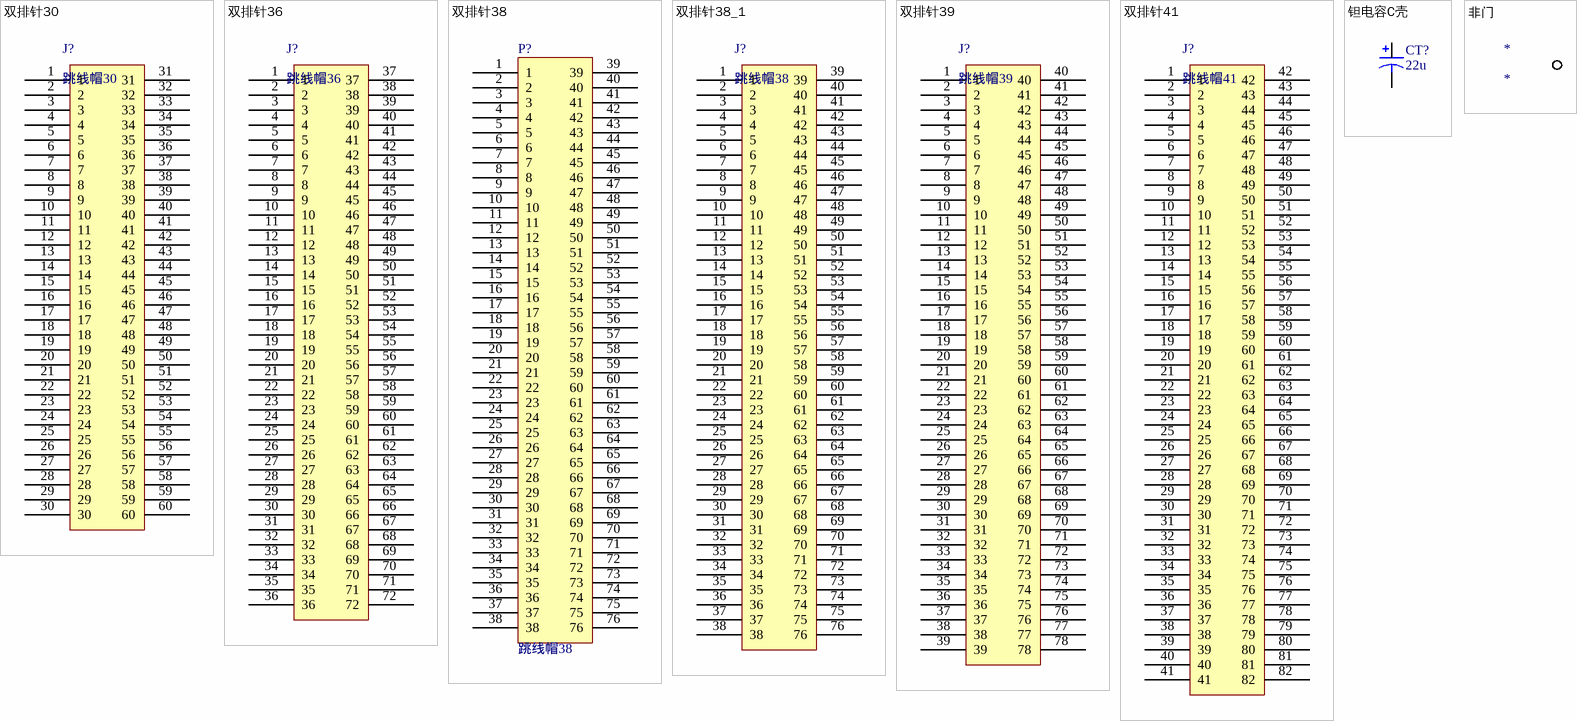
[diagram p5: symbols 双排针30 to 非门]